# Altium integrated library Motorola Microcontroller 32-Bit.IntLib: 337 symbols (part 20 of 29)
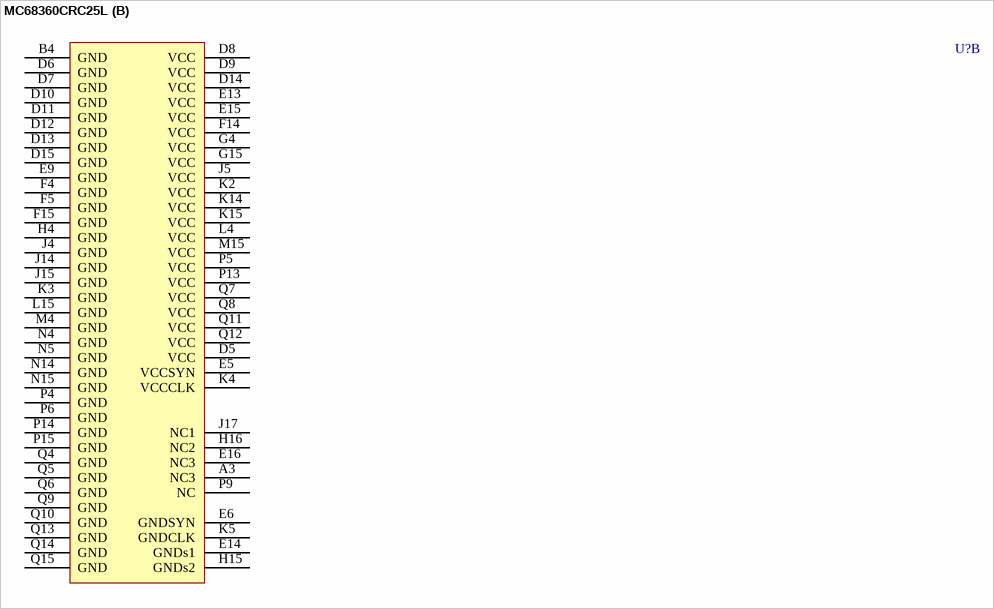
[diagram p258: symbol MC68360CRC25L]

## MC68360CRC25L
designator U?
Quad Integrated Communication Controller; Published: 21-Mar-2003; LatestRevisionDate: 06-Jun-2005; LatestRevisionNote: Stylized 3D Model Added.; DatasheetVersion: Jan-1995; PackageVersion: Jan-1995; PackageReference: PGA241; Publisher: Altium Limited; PackageDescription: 241-Pin Pin Grid Array 2.54 mm Pitch; ComponentLink1Description: Manufacturer Link; ComponentLink1URL: http://www.freescale.com/; ComponentLink2Description: Datasheet; ComponentLink2URL: http://www.freescale.com/files/32bit/doc/data_sheet/MC68360.pdf
footprint PGA241 (PGA, 241-Leads, Body 47x47mm, Pitch 2.54mm)
3D model MC68360-PGA241 (241-Pin Pin Grid Array 2.54 mm Pitch)
part A pins: A2 XTAL, A4 A26 (io), A5 A24 (io), A6 A21 (io), A7 A18 (io), A8 A15 (io), A9 A12 (io), A10 A11 (io), A11 A9 (io), A12 A6 (io), A13 A3 (io), A14 A2 (io), A15 ~{TRIS}/~{TS} (in), A16 ~{CS}6/~{RAS}6 (io), A17 ~{CS}3/~{RAS}3 (io), A18 ~{CS}0/~{RAS}0 (io), B1 SIZ0 (io), B2 A28/~{WE}3 (io), B3 MODCK0 (in), B5 A25 (io), B6 A22 (io), B7 A19 (io), B8 A16 (io), B9 A13 (io), B10 A10 (io), B11 A7 (io), B12 A5 (io), B13 A1 (io), B14 ~{IRQ}7 (in), B15 ~{CS}5/~{RAS}5 (io), B16 ~{CS}2/~{RAS}2 (io), B17 ~{CAS}2/~{IACK}3 (out), B18 ~{CAS}1/~{IACK}2 (out), C1 SIZ1 (io), C2 A29/~{WE}2 (io), C3 EXTAL (in), C4 MODCK1 (in), C5 A27 (io), C6 A23 (io), C7 A20 (io), C8 A17 (io), C9 A14 (io), C10 A8 (io), C11 A4 (io), C12 A0 (io), C13 ~{CS}7/~{RAS}7/~{IACK}7 (io), C14 ~{CS}4/~{RAS}4 (io), C15 ~{CS}1/~{RAS}1 (io), C16 ~{CAS}3/~{IACK}6 (out), C17 FREEZE/CONFIG2/~{MBARE} (out), C18 ~{DS}/TT1 (io), D1 FC2/TM2 (io), D2 FC1/TM1 (io), D3 A30/~{WE}1 (io), D4 XFC, D16 ~{CAS}0/~{IACK}1 (out), D17 R/~{W} (out), D18 ~{DSACK}0/~{TB}1 (io), E1 D30 (io), E2 FC3/TTO (io), E3 FC0/TM0 (io), E4 A31/~{WE}3 (io), E17 ~{DSACK}1/~{TA} (io), E18 PRTY3/16~{BM} (io), F1 D27 (io), F2 D29 (io), F3 D31 (io), F16 PRTY2/~{IOUT}0/~{RQOUT} (io), F17 PRTY1/~{IOUT}1 (io), F18 PRTY0/~{IOUT}2 (io), G1 D24 (io), G2 D26 (io), G3 D28 (io), G16 ~{IPIPE}0/BADD2/DSO (out), G17 ~{AS} (io), G18 ~{IPIPE}1/~{RAS1DD}/~{BCLRI} (io), H1 D21 (io), H2 D23 (io), H3 D25 (io), H17 ~{BCLRO}/CONFIG1/~{RAS2DD} (io), H18 ~{OE}/AMUX (out), J1 CLKO1 (out), J2 D20 (io), J3 D22 (io), J16 ~{IFETCH}/BADD3/DSI (io), J18 ~{BR} (in), K1 CLKO2 (out), K16 ~{IRQ}4/~{IOUT}1 (io), K17 ~{BGACK}/~{BB} (io), K18 ~{BG} (io), L1 D19 (io), L2 D18 (io), L3 D17 (io), L16 ~{TRST} (in), L17 ~{BKPT}/~{BKPTO}/DSCLK (io), L18 ~{IRQ}6/~{IOUT}2 (io), M1 D16 (io), M2 D15 (io), M3 D14 (io), M16 TDI (in), M17 TCK (in), M18 ~{RESETH} (io), N1 D13 (io), N2 D12 (io), N3 D11 (io), N16 ~{AVEC}/~{IACK}5/~{AVEC}0 (io), N17 TDO (hiz), N18 TMS (in), P1 D10 (io), P2 D9 (io), P3 D8 (io), P16 ~{HALT} (io), P17 ~{RMC}/CONFIG0/~{LOCK} (io), P18 ~{PERR} (out), Q1 D7 (io), Q2 D6 (io), Q3 D5 (io), Q16 ~{IRQ}5 (in), Q17 ~{BERR}/~{TEA} (io), Q18 ~{RESETS} (io), R1 D4 (io), R2 D3 (io), R3 D1 (io), R4 PA14/TIN4/BRGO4/CLK7 (io), R5 PA11/~{TOUT}2/CLK4 (io), R6 PA8/TIN1/L1RCLKA/BRGO1/CLK1 (io), R7 PA4/L1TXDB/RXD3 (io), R8 PA0/RXD1 (io), R9 PB14/L1SR3/~{L1RQB}/~{RTS}3 (io), R10 PB9/~{DACK}2/~{SMSYN}2 (io), R11 PB6/~{DONE}1/SMTXD1 (io), R12 PB3/BRGO4/SPIMISO(SPIRXD) (io), R13 PB0/~{RRJCT}1/~{SPISEL} (io), R14 PC8/~{SDACK}2/L1TSYNCB/~{CTS}3 (io), R15 PC4/~{CTS}1 (io), R16 PC0/L1ST1/~{RTS}1 (io), R17 ~{IRQ}3 (in), R18 ~{IRQ}1/~{IOUT}0/~{RQOUT} (io), S1 D2 (io), S2 D0 (io), S3 PA13/BRGCLK2/L1RCLKB/~{TOUT}3/~{CLK}6 (io), S4 PA10/TIN2/L1TCLKA/BRGO2/CLK3 (io), S5 PA7/L1RXDA/TXD4 (io), S6 PA5/L1RXDB/TXD3 (io), S7 PA1/TXD1 (io), S8 PB16/STRBO/BRGO3 (io), S9 PB13/L1ST2/~{RTS}2 (io), S10 PB10/L1CLKOB/SMTXD2 (io), S11 PB7/~{DONE}2/SMRXD1 (io), S12 PB4/~{DREQ}1/BRGO1 (io), S13 PB1/~{RSTRT}2/SPICLK (io), S14 PC10/~{SDACK}1/L1TSYNCA/~{CTS}4 (io), S15 PC7/~{TGATE}2/~{CD}2 (io), S16 PC3/L1ST4/~{L1RQA}/~{RTS}4 (io), S17 PC1/L1ST2/~{RTS}2 (io), S18 ~{IRQ}2 (in), T1 PA15/L1TCLKB/~{TOUT}4/CLKB (io), T2 PA12/TIN3/BRGO3/CLK5 (io), T3 PA9/BRGCLK1/~{TOUT}1/CLK2 (io), T4 PA6/L1TXDA/RXD4 (io), T5 PA3/TXD2 (io), T6 PA2/RXD2 (io), T7 PB17/STRBI/~{RSTRT}1 (io), T8 PB15/L1ST4/~{L1RQA}/~{RTS}4 (io), T9 PB12/L1ST1/~{RTS}1 (io), T10 PB11/L1CLKOA/SMRXD2 (io), T11 PB8/~{DREQ}2/~{SMSYN}1 (io), T12 PB5/~{DACK}1/BRGO2 (io), T13 PB2/~{RRJCT}2/SPIMOSI(SPITXD) (io), T14 PC11/L1RSYNCA/~{CD}4 (io), T15 PC9/L1RSYNCB/~{CD}3 (io), T16 PC6/~{CTS}2 (io), T17 PC5/~{TGATE}1/~{CD}1 (io), T18 PC2/L1ST3/~{L1RQB}/~{RTS}3 (io)
part B pins: A3 NC3, B4 GND (power), D5 VCC (power), D6 GND (power), D7 GND (power), D8 VCC (power), D9 VCC (power), D10 GND (power), D11 GND (power), D12 GND (power), D13 GND (power), D14 VCC (power), D15 GND (power), E5 VCCSYN (power), E6 GNDSYN (power), E9 GND (power), E13 VCC (power), E14 GNDs1 (power), E15 VCC (power), E16 NC3, F4 GND (power), F5 GND (power), F14 VCC (power), F15 GND (power), G4 VCC (power), G15 VCC (power), H4 GND (power), H15 GNDs2 (power), H16 NC2, J4 GND (power), J5 VCC (power), J14 GND (power), J15 GND (power), J17 NC1, K2 VCC (power), K3 GND (power), K4 VCCCLK (power), K5 GNDCLK (power), K14 VCC (power), K15 VCC (power), L4 VCC (power), L15 GND (power), M4 GND (power), M15 VCC (power), N4 GND (power), N5 GND (power), N14 GND (power), N15 GND (power), P4 GND (power), P5 VCC (power), P6 GND (power), P9 NC, P13 VCC (power), P14 GND (power), P15 GND (power), Q4 GND (power), Q5 GND (power), Q6 GND (power), Q7 VCC (power), Q8 VCC (power), Q9 GND (power), Q10 GND (power), Q11 VCC (power), Q12 VCC (power), Q13 GND (power), Q14 GND (power), Q15 GND (power)

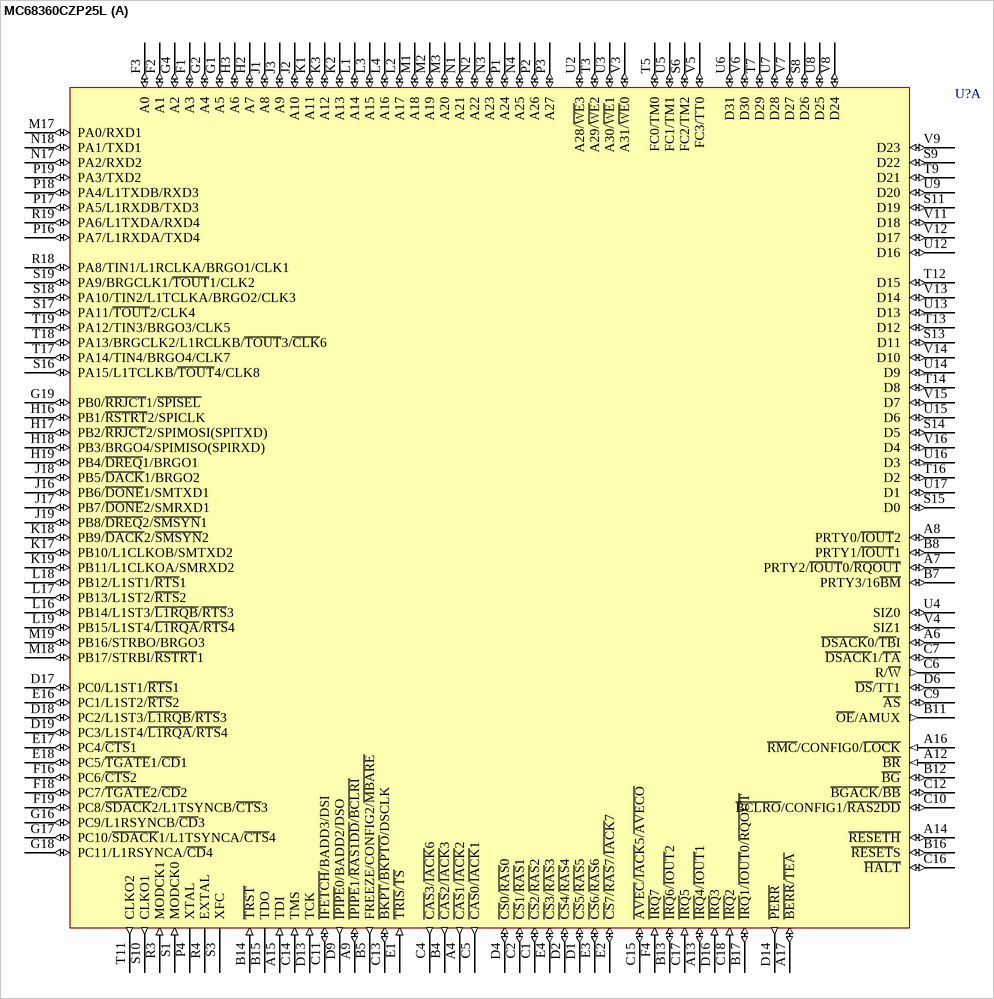
[diagram p162: symbol MC68360CZP25L]

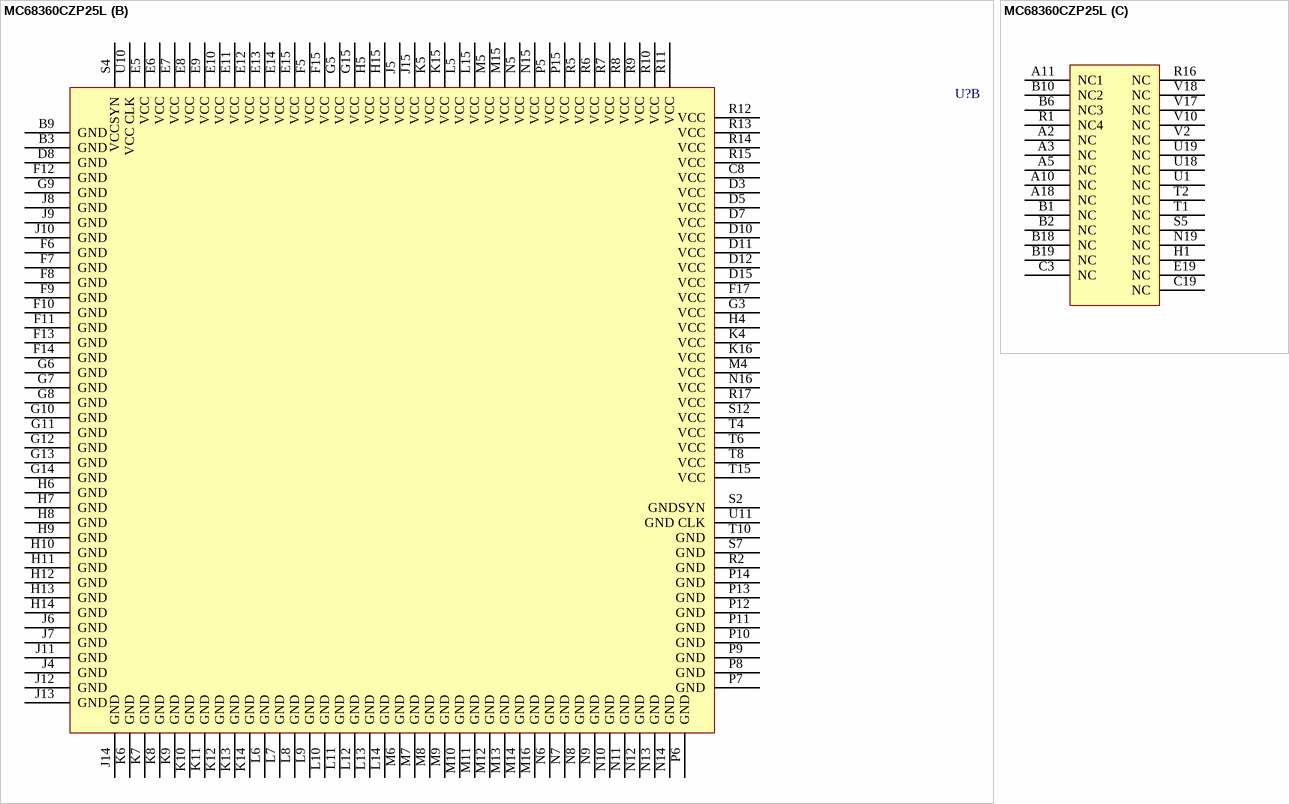
[diagram p163: symbol MC68360CZP25L]

## MC68360CZP25L
designator U?
Quad Integrated Communication Controller; Note: Footprint departs from the JEDEC JC-11 standard. The letter 's' is used to mark one of the rows.; Published: 21-Mar-2003; LatestRevisionDate: 13-Apr-2006; LatestRevisionNote: IPC-7351 Footprint Added.; DatasheetVersion: Jan-1995; PackageVersion: Sep-2002; PackageReference: 1103-01A; Publisher: Altium Limited; PackageDescription: 357-Ball Ball Grid Array 1.27 mm Pitch; ComponentLink1Description: Manufacturer Link; ComponentLink1URL: http://www.freescale.com/; ComponentLink2Description: Datasheet; ComponentLink2URL: http://www.freescale.com/files/32bit/doc/data_sheet/MC68360.pdf
footprint 1103-01 (BGA, 357-Leads, Body 25x25mm, Pitch 1.27mm)
3D model MC68360-1103-01 (357-Ball Ball Grid Array 1.27 mm Pitch)
part A pins: A4 ~{CAS}1/~{IACK}2 (out), A6 ~{DSACK}0/~{TB}I (io), A7 PRTY2/~{IOUT}0/~{RQOUT} (io), A8 PRTY0/~{IOUT}2 (io), A9 ~{IPIPE}1/~{RAS1DD}/~{BCLRI} (io), A12 ~{BR} (in), A13 ~{IRQ}4/~{IOUT}1 (io), A14 ~{RESETH} (io), A15 TDI (in), A16 ~{RMC}/CONFIG0/~{LOCK} (in), A17 ~{BERR}/~{TEA} (io), B4 ~{CAS}2/~{IACK}3 (out), B5 FREEZE/CONFIG2/~{MBARE} (out), B7 PRTY3/16~{BM} (io), B8 PRTY1/~{IOUT}1 (io), B11 ~{OE}/AMUX (out), B12 ~{BG} (io), B13 ~{IRQ}6/~{IOUT}2 (io), B14 ~{TRST} (in), B15 TDO (hiz), B16 ~{RESET}S (io), B17 ~{IRQ}1/~{IOUT}0/~{RQOUT} (io), C1 ~{CS}2/~{RAS}2 (io), C2 ~{CS}1/~{RAS}1 (io), C4 ~{CAS}3/~{IACK}6 (out), C5 ~{CAS}0/~{IACK}1 (out), C6 R/~{W} (out), C7 ~{DSACK}1/~{TA} (io), C9 ~{AS} (io), C10 ~{BCLRO}/CONFIG1/~{RAS2DD} (io), C11 ~{IFETCH}/BADD3/DSI (io), C12 ~{BGACK}/~{BB} (io), C13 ~{BKPT}/~{BKPTO}/DSCLK (io), C14 TMS (in), C15 ~{AVEC}/~{IACK}5/~{AVECO} (io), C16 ~{HALT} (io), C17 ~{IRQ}5 (in), C18 ~{IRQ}2 (in), D1 ~{CS}5/~{RAS}5 (io), D2 ~{CS}4/~{RAS}4 (io), D4 ~{CS}0/~{RAS}0 (io), D6 ~{DS}/TT1 (io), D9 ~{IPIPE}0/BADD2/DSO (out), D13 TCK (in), D14 ~{PERR} (out), D16 ~{IRQ}3 (in), D17 PC0/L1ST1/~{RTS}1 (io), D18 PC2/L1ST3/~{L1RQB}/~{RTS}3 (io), D19 PC3/L1ST4/~{L1RQA}/~{RTS}4 (io), E1 ~{TRIS}/~{TS} (in), E2 ~{CS}7/~{RAS}7/~{IACK}7 (io), E3 ~{CS}6/~{RAS}6 (io), E4 ~{CS}3/~{RAS}3 (io), E16 PC1/L1ST2/~{RTS}2 (io), E17 PC4/~{CTS}1 (io), E18 PC5/~{TGATE}1/~{CD}1 (io), F1 A3 (io), F2 A1 (io), F3 A0 (io), F4 ~{IRQ}7 (in), F16 PC6/~{CTS}2 (io), F18 PC7/~{TGATE}2/~{CD}2 (io), F19 PC8/~{SDACK}2/L1TSYNCB/~{CTS}3 (io), G1 A5 (io), G2 A4 (io), G4 A2 (io), G16 PC9/L1RSYNCB/~{CD}3 (io), G17 PC10/~{SDACK}1/L1TSYNCA/~{CTS}4 (io), G18 PC11/L1RSYNCA/~{CD}4 (io), G19 PB0/~{RRJCT}1/~{SPISEL} (io), H2 A7 (io), H3 A6 (io), H16 PB1/~{RSTRT}2/SPICLK (io), H17 PB2/~{RRJCT}2/SPIMOSI(SPITXD) (io), H18 PB3/BRGO4/SPIMISO(SPIRXD) (io), H19 PB4/~{DREQ}1/BRGO1 (io), J1 A8 (io), J2 A10 (io), J3 A9 (io), J16 PB6/~{DONE}1/SMTXD1 (io), J17 PB7/~{DONE}2/SMRXD1 (io), J18 PB5/~{DACK}1/BRGO2 (io), J19 PB8/~{DREQ}2/~{SMSYN}1 (io), K1 A11 (io), K2 A13 (io), K3 A12 (io), K17 PB10/L1CLKOB/SMTXD2 (io), K18 PB9/~{DACK}2/~{SMSYN}2 (io), K19 PB11/L1CLKOA/SMRXD2 (io), L1 A14 (io), L2 A17 (io), L3 A15 (io), L4 A16 (io), L16 PB14/L1ST3/~{L1RQB}/~{RTS}3 (io), L17 PB13/L1ST2/~{RTS}2 (io), L18 PB12/L1ST1/~{RTS}1 (io), L19 PB15/L1ST4/~{L1RQA}/~{RTS}4 (io), M1 A18 (io), M2 A19 (io), M3 A20 (io), M17 PA0/RXD1 (io), M18 PB17/STRBI/~{RSTRT}1 (io), M19 PB16/STRBO/BRGO3 (io), N1 A21 (io), N2 A22 (io), N3 A23 (io), N4 A25 (io), N17 PA2/RXD2 (io), N18 PA1/TXD1 (io), P1 A24 (io), P2 A26 (io), P3 A27 (io), P4 XTAL, P16 PA7/L1RXDA/TXD4 (io), P17 PA5/L1RXDB/TXD3 (io), P18 PA4/L1TXDB/RXD3 (io), P19 PA3/TXD2 (io), R3 MODCK1 (in), R4 EXTAL, R18 PA8/TIN1/L1RCLKA/BRGO1/CLK1 (io), R19 PA6/L1TXDA/RXD4 (io), S1 MODCK0 (in), S3 XFC, S6 FC2/TM2 (io), S8 D26 (io), S9 D22 (io), S10 CLKO1 (out), S11 D19 (io), S13 D11 (io), S14 D5 (io), S15 D0 (io), S16 PA15/L1TCLKB/~{TOUT}4/CLK8 (io), S17 PA11/~{TOUT}2/CLK4 (io), S18 PA10/TIN2/L1TCLKA/BRGO2/CLK3 (io), S19 PA9/BRGCLK1/~{TOUT}1/CLK2 (io), T3 A29/~{WE}2 (io), T5 FC0/TM0 (io), T7 D29 (io), T9 D21 (io), T11 CLKO2 (out), T12 D15 (io), T13 D12 (io), T14 D8 (io), T16 D2 (io), T17 PA14/TIN4/BRGO4/CLK7 (io), T18 PA13/BRGCLK2/L1RCLKB/~{TOUT}3/~{CLK}6 (io), T19 PA12/TIN3/BRGO3/CLK5 (io), U2 A28/~{WE}3 (io), U3 A30/~{WE}1 (io), U4 SIZ0 (io), U5 FC1/TM1 (io), U6 D31 (io), U7 D28 (io), U8 D25 (io), U9 D20 (io), U12 D16 (io), U13 D13 (io), U14 D9 (io), U15 D6 (io), U16 D3 (io), U17 D1 (io), V3 A31/~{WE}0 (io), V4 SIZ1 (io), V5 FC3/TT0 (io), V6 D30 (io), V7 D27 (io), V8 D24 (io), V9 D23 (io), V11 D18 (io), V12 D17 (io), V13 D14 (io), V14 D10 (io), V15 D7 (io), V16 D4 (io)
part B pins: B3 GND (power), B9 GND (power), C8 VCC (power), D3 VCC (power), D5 VCC (power), D7 VCC (power), D8 GND (power), D10 VCC (power), D11 VCC (power), D12 VCC (power), D15 VCC (power), E5 VCC (power), E6 VCC (power), E7 VCC (power), E8 VCC (power), E9 VCC (power), E10 VCC (power), E11 VCC (power), E12 VCC (power), E13 VCC (power), E14 VCC (power), E15 VCC (power), F5 VCC (power), F6 GND (power), F7 GND (power), F8 GND (power), F9 GND (power), F10 GND (power), F11 GND (power), F12 GND (power), F13 GND (power), F14 GND (power), F15 VCC (power), F17 VCC (power), G3 VCC (power), G5 VCC (power), G6 GND (power), G7 GND (power), G8 GND (power), G9 GND (power), G10 GND (power), G11 GND (power), G12 GND (power), G13 GND (power), G14 GND (power), G15 VCC (power), H4 VCC (power), H5 VCC (power), H6 GND (power), H7 GND (power), H8 GND (power), H9 GND (power), H10 GND (power), H11 GND (power), H12 GND (power), H13 GND (power), H14 GND (power), H15 VCC (power), J4 GND (power), J5 VCC (power), J6 GND (power), J7 GND (power), J8 GND (power), J9 GND (power), J10 GND (power), J11 GND (power), J12 GND (power), J13 GND (power), J14 GND (power), J15 VCC (power), K4 VCC (power), K5 VCC (power), K6 GND (power), K7 GND (power), K8 GND (power), K9 GND (power), K10 GND (power), K11 GND (power), K12 GND (power), K13 GND (power), K14 GND (power), K15 VCC (power), K16 VCC (power), L5 VCC (power), L6 GND (power), L7 GND (power), L8 GND (power), L9 GND (power), L10 GND (power), L11 GND (power), L12 GND (power), L13 GND (power), L14 GND (power), L15 VCC (power), M4 VCC (power), M5 VCC (power), M6 GND (power), M7 GND (power), M8 GND (power), M9 GND (power), M10 GND (power), M11 GND (power), M12 GND (power), M13 GND (power), M14 GND (power), M15 VCC (power), M16 GND (power), N5 VCC (power), N6 GND (power), N7 GND (power), N8 GND (power), N9 GND (power), N10 GND (power), N11 GND (power), N12 GND (power), N13 GND (power), N14 GND (power), N15 VCC (power), N16 VCC (power), P5 VCC (power), P6 GND (power), P7 GND (power), P8 GND (power), P9 GND (power), P10 GND (power), P11 GND (power), P12 GND (power), P13 GND (power), P14 GND (power), P15 VCC (power), R2 GND (power), R5 VCC (power), R6 VCC (power), R7 VCC (power), R8 VCC (power), R9 VCC (power), R10 VCC (power), R11 VCC (power), R12 VCC (power), R13 VCC (power), R14 VCC (power), R15 VCC (power), R17 VCC (power), S2 GNDSYN (power), S4 VCCSYN (power), S7 GND (power), S12 VCC (power), T4 VCC (power), T6 VCC (power), T8 VCC (power), T10 GND (power), T15 VCC (power), U10 VCC CLK (power), U11 GND CLK (power)
part C pins: A2 NC, A3 NC, A5 NC, A10 NC, A11 NC1, A18 NC, B1 NC, B2 NC, B6 NC3, B10 NC2, B18 NC, B19 NC, C3 NC, C19 NC, E19 NC, H1 NC, N19 NC, R1 NC4, R16 NC, S5 NC, T1 NC, T2 NC, U1 NC, U18 NC, U19 NC, V2 NC, V10 NC, V17 NC, V18 NC

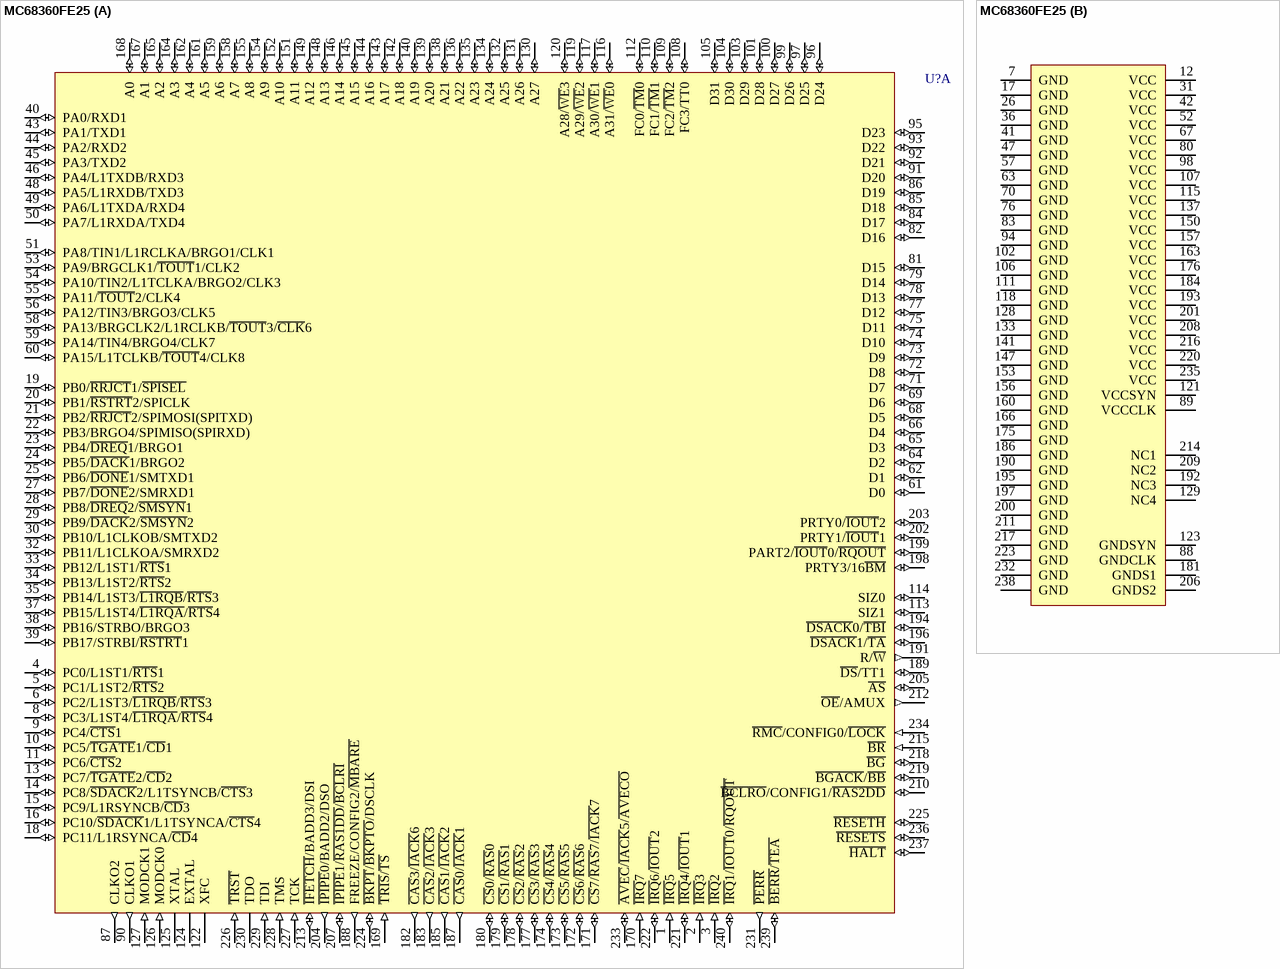
[diagram p164: symbol MC68360FE25]

## MC68360FE25
designator U?
Quad Integrated Communication Controller; Published: 21-Mar-2003; LatestRevisionDate: 13-Apr-2006; LatestRevisionNote: IPC-7351 Footprint Added.; DatasheetVersion: Jan-1995; PackageVersion: Mar-1995; PackageReference: 988-01; Publisher: Altium Limited; PackageDescription: 240-Pin Shrink Quad Flat Pack 0.5 mm Pitch; ComponentLink1Description: Manufacturer Link; ComponentLink1URL: http://www.freescale.com/; ComponentLink2Description: Datasheet; ComponentLink2URL: http://www.freescale.com/files/32bit/doc/data_sheet/MC68360.pdf
footprint 988-01_N (Shrink QFP, 240-Leads, Body 31.3x31.3mm, Pitch 0.5mm, IPC Medium Density)
footprint 988-01_L (Shrink QFP, 240-Leads, Body 31.3x31.3mm, Pitch 0.5mm, IPC High Density)
footprint 988-01_M (Shrink QFP, 240-Leads, Body 31.3x31.3mm, Pitch 0.5mm, IPC Low Density)
3D model MC68360-988-01 (240-Pin Shrink Quad Flat Pack 0.5 mm Pitch)
part A pins: 1 ~{IRQ}5 (in), 2 ~{IRQ}3 (in), 3 ~{IRQ}2 (in), 4 PC0/L1ST1/~{RTS}1 (io), 5 PC1/L1ST2/~{RTS}2 (io), 6 PC2/L1ST3/~{L1RQB}/~{RTS}3 (io), 8 PC3/L1ST4/~{L1RQA}/~{RTS}4 (io), 9 PC4/~{CTS}1 (io), 10 PC5/~{TGATE}1/~{CD}1 (io), 11 PC6/~{CTS}2 (io), 13 PC7/~{TGATE}2/~{CD}2 (io), 14 PC8/~{SDACK}2/L1TSYNCB/~{CTS}3 (io), 15 PC9/L1RSYNCB/~{CD}3 (io), 16 PC10/~{SDACK}1/L1TSYNCA/~{CTS}4 (io), 18 PC11/L1RSYNCA/~{CD}4 (io), 19 PB0/~{RRJCT}1/~{SPISEL} (io), 20 PB1/~{RSTRT}2/SPICLK (io), 21 PB2/~{RRJCT}2/SPIMOSI(SPITXD) (io), 22 PB3/BRGO4/SPIMISO(SPIRXD) (io), 23 PB4/~{DREQ}1/BRGO1 (io), 24 PB5/~{DACK}1/BRGO2 (io), 25 PB6/~{DONE}1/SMTXD1 (io), 27 PB7/~{DONE}2/SMRXD1 (io), 28 PB8/~{DREQ}2/~{SMSYN}1 (io), 29 PB9/~{DACK}2/~{SMSYN}2 (io), 30 PB10/L1CLKOB/SMTXD2 (io), 32 PB11/L1CLKOA/SMRXD2 (io), 33 PB12/L1ST1/~{RTS}1 (io), 34 PB13/L1ST2/~{RTS}2 (io), 35 PB14/L1ST3/~{L1RQB}/~{RTS}3 (io), 37 PB15/L1ST4/~{L1RQA}/~{RTS}4 (io), 38 PB16/STRBO/BRGO3 (io), 39 PB17/STRBI/~{RSTRT}1 (io), 40 PA0/RXD1 (io), 43 PA1/TXD1 (io), 44 PA2/RXD2 (io), 45 PA3/TXD2 (io), 46 PA4/L1TXDB/RXD3 (io), 48 PA5/L1RXDB/TXD3 (io), 49 PA6/L1TXDA/RXD4 (io), 50 PA7/L1RXDA/TXD4 (io), 51 PA8/TIN1/L1RCLKA/BRGO1/CLK1 (io), 53 PA9/BRGCLK1/~{TOUT}1/CLK2 (io), 54 PA10/TIN2/L1TCLKA/BRGO2/CLK3 (io), 55 PA11/~{TOUT}2/CLK4 (io), 56 PA12/TIN3/BRGO3/CLK5 (io), 58 PA13/BRGCLK2/L1RCLKB/~{TOUT}3/~{CLK}6 (io), 59 PA14/TIN4/BRGO4/CLK7 (io), 60 PA15/L1TCLKB/~{TOUT}4/CLK8 (io), 61 D0 (io), 62 D1 (io), 64 D2 (io), 65 D3 (io), 66 D4 (io), 68 D5 (io), 69 D6 (io), 71 D7 (io), 72 D8 (io), 73 D9 (io), 74 D10 (io), 75 D11 (io), 77 D12 (io), 78 D13 (io), 79 D14 (io), 81 D15 (io), 82 D16 (io), 84 D17 (io), 85 D18 (io), 86 D19 (io), 87 CLKO2 (out), 90 CLKO1 (out), 91 D20 (io), 92 D21 (io), 93 D22 (io), 95 D23 (io), 96 D24 (io), 97 D25 (io), 99 D26 (io), 100 D27 (io), 101 D28 (io), 103 D29 (io), 104 D30 (io), 105 D31 (io), 108 FC3/TT0 (io), 109 FC2/~{TM}2 (io), 110 FC1/~{TM}1 (io), 112 FC0/~{TM}0 (io), 113 SIZ1 (io), 114 SIZ0 (io), 116 A31/~{WE}0 (io), 117 A30/~{WE}1 (io), 119 A29/~{WE}2 (io), 120 A28/~{WE}3 (io), 122 XFC, 124 EXTAL, 125 XTAL, 126 MODCK0 (in), 127 MODCK1 (in), 130 A27 (io), 131 A26 (io), 132 A25 (io), 134 A24 (io), 135 A23 (io), 136 A22 (io), 138 A21 (io), 139 A20 (io), 140 A19 (io), 142 A18 (io), 143 A17 (io), 144 A16 (io), 145 A15 (io), 146 A14 (io), 148 A13 (io), 149 A12 (io), 151 A11 (io), 152 A10 (io), 154 A9 (io), 155 A8 (io), 158 A7 (io), 159 A6 (io), 161 A5 (io), 162 A4 (io), 164 A3 (io), 165 A2 (io), 167 A1 (io), 168 A0 (io), 169 ~{TRIS}/~{TS} (in), 170 ~{IRQ}7 (in), 171 ~{CS}7/~{RAS}7/~{IACK}7 (io), 172 ~{CS}6/~{RAS}6 (io), 173 ~{CS}5/~{RAS}5 (io), 174 ~{CS}4/~{RAS}4 (io), 177 ~{CS}3/~{RAS}3 (io), 178 ~{CS}2/~{RAS}2 (io), 179 ~{CS}1/~{RAS}1 (io), 180 ~{CS}0/~{RAS}0 (io), 182 ~{CAS}3/~{IACK}6 (out), 183 ~{CAS}2/~{IACK}3 (out), 185 ~{CAS}1/~{IACK}2 (out), 187 ~{CAS}0/~{IACK}1 (out), 188 FREEZE/CONFIG2/~{MBARE} (out), 189 ~{DS}/TT1 (io), 191 R/~{W} (out), 194 ~{DSACK}0/~{TBI} (io), 196 ~{DSACK}1/~{TA} (io), 198 PRTY3/16~{BM} (io), 199 PART2/~{IOUT}0/~{RQOUT} (io), 202 PRTY1/~{IOUT}1 (io), 203 PRTY0/~{IOUT}2 (io), 204 ~{IPIPE}0/BADD2/DSO (out), 205 ~{AS} (io), 207 ~{IPIPE}1/~{RAS1DD}/~{BCLRI} (io), 210 ~{BCLRO}/CONFIG1/~{RAS2DD} (io), 212 ~{OE}/AMUX (out), 213 ~{IFETCH}/BADD3/DSI (io), 215 ~{BR} (in), 218 ~{BG} (io), 219 ~{BGACK}/~{BB} (io), 221 ~{IRQ}4/~{IOUT}1 (io), 222 ~{IRQ}6/~{IOUT}2 (io), 224 ~{BKPT}/~{BKPTO}/DSCLK (io), 225 ~{RESETH} (io), 226 ~{TRST} (in), 227 TCK (in), 228 TMS (in), 229 TDI (in), 230 TDO (hiz), 231 ~{PERR} (out), 233 ~{AVEC}/~{IACK}5/~{AVECO} (io), 234 ~{RMC}/CONFIG0/~{LOCK} (in), 236 ~{RESETS} (io), 237 ~{HALT} (io), 239 ~{BERR}/~{TEA} (io), 240 ~{IRQ}1/~{IOUT}0/~{RQOUT} (io)
part B pins: 7 GND (power), 12 VCC (power), 17 GND (power), 26 GND (power), 31 VCC (power), 36 GND (power), 41 GND (power), 42 VCC (power), 47 GND (power), 52 VCC (power), 57 GND (power), 63 GND (power), 67 VCC (power), 70 GND (power), 76 GND (power), 80 VCC (power), 83 GND (power), 88 GNDCLK (power), 89 VCCCLK (power), 94 GND (power), 98 VCC (power), 102 GND (power), 106 GND (power), 107 VCC (power), 111 GND (power), 115 VCC (power), 118 GND (power), 121 VCCSYN (power), 123 GNDSYN (power), 128 GND (power), 129 NC4, 133 GND (power), 137 VCC (power), 141 GND (power), 147 GND (power), 150 VCC (power), 153 GND (power), 156 GND (power), 157 VCC (power), 160 GND (power), 163 VCC (power), 166 GND (power), 175 GND (power), 176 VCC (power), 181 GNDS1 (power), 184 VCC (power), 186 GND (power), 190 GND (power), 192 NC3, 193 VCC (power), 195 GND (power), 197 GND (power), 200 GND (power), 201 VCC (power), 206 GNDS2 (power), 208 VCC (power), 209 NC2, 211 GND (power), 214 NC1, 216 VCC (power), 217 GND (power), 220 VCC (power), 223 GND (power), 232 GND (power), 235 VCC (power), 238 GND (power)

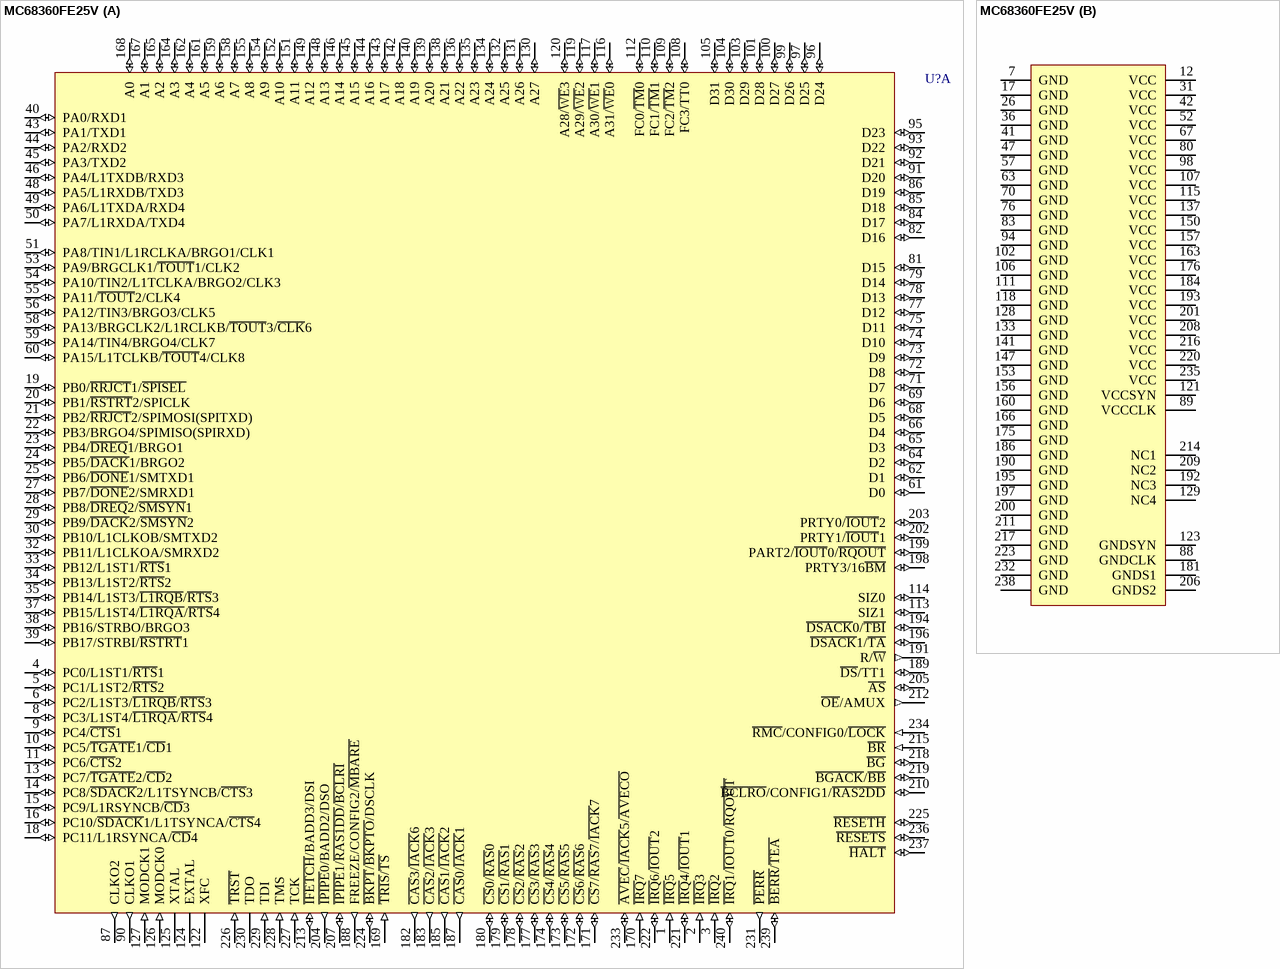
[diagram p165: symbol MC68360FE25V]

## MC68360FE25V
designator U?
Quad Integrated Communication Controller; Published: 21-Mar-2003; LatestRevisionDate: 13-Apr-2006; LatestRevisionNote: IPC-7351 Footprint Added.; DatasheetVersion: Jan-1995; PackageVersion: Mar-1995; PackageReference: 988-01; Publisher: Altium Limited; PackageDescription: 240-Pin Shrink Quad Flat Pack 0.5 mm Pitch; ComponentLink1Description: Manufacturer Link; ComponentLink1URL: http://www.freescale.com/; ComponentLink2Description: Datasheet; ComponentLink2URL: http://www.freescale.com/files/32bit/doc/data_sheet/MC68360.pdf
footprint 988-01_N (Shrink QFP, 240-Leads, Body 31.3x31.3mm, Pitch 0.5mm, IPC Medium Density)
footprint 988-01_L (Shrink QFP, 240-Leads, Body 31.3x31.3mm, Pitch 0.5mm, IPC High Density)
footprint 988-01_M (Shrink QFP, 240-Leads, Body 31.3x31.3mm, Pitch 0.5mm, IPC Low Density)
3D model MC68360-988-01 (240-Pin Shrink Quad Flat Pack 0.5 mm Pitch)
part A pins: 1 ~{IRQ}5 (in), 2 ~{IRQ}3 (in), 3 ~{IRQ}2 (in), 4 PC0/L1ST1/~{RTS}1 (io), 5 PC1/L1ST2/~{RTS}2 (io), 6 PC2/L1ST3/~{L1RQB}/~{RTS}3 (io), 8 PC3/L1ST4/~{L1RQA}/~{RTS}4 (io), 9 PC4/~{CTS}1 (io), 10 PC5/~{TGATE}1/~{CD}1 (io), 11 PC6/~{CTS}2 (io), 13 PC7/~{TGATE}2/~{CD}2 (io), 14 PC8/~{SDACK}2/L1TSYNCB/~{CTS}3 (io), 15 PC9/L1RSYNCB/~{CD}3 (io), 16 PC10/~{SDACK}1/L1TSYNCA/~{CTS}4 (io), 18 PC11/L1RSYNCA/~{CD}4 (io), 19 PB0/~{RRJCT}1/~{SPISEL} (io), 20 PB1/~{RSTRT}2/SPICLK (io), 21 PB2/~{RRJCT}2/SPIMOSI(SPITXD) (io), 22 PB3/BRGO4/SPIMISO(SPIRXD) (io), 23 PB4/~{DREQ}1/BRGO1 (io), 24 PB5/~{DACK}1/BRGO2 (io), 25 PB6/~{DONE}1/SMTXD1 (io), 27 PB7/~{DONE}2/SMRXD1 (io), 28 PB8/~{DREQ}2/~{SMSYN}1 (io), 29 PB9/~{DACK}2/~{SMSYN}2 (io), 30 PB10/L1CLKOB/SMTXD2 (io), 32 PB11/L1CLKOA/SMRXD2 (io), 33 PB12/L1ST1/~{RTS}1 (io), 34 PB13/L1ST2/~{RTS}2 (io), 35 PB14/L1ST3/~{L1RQB}/~{RTS}3 (io), 37 PB15/L1ST4/~{L1RQA}/~{RTS}4 (io), 38 PB16/STRBO/BRGO3 (io), 39 PB17/STRBI/~{RSTRT}1 (io), 40 PA0/RXD1 (io), 43 PA1/TXD1 (io), 44 PA2/RXD2 (io), 45 PA3/TXD2 (io), 46 PA4/L1TXDB/RXD3 (io), 48 PA5/L1RXDB/TXD3 (io), 49 PA6/L1TXDA/RXD4 (io), 50 PA7/L1RXDA/TXD4 (io), 51 PA8/TIN1/L1RCLKA/BRGO1/CLK1 (io), 53 PA9/BRGCLK1/~{TOUT}1/CLK2 (io), 54 PA10/TIN2/L1TCLKA/BRGO2/CLK3 (io), 55 PA11/~{TOUT}2/CLK4 (io), 56 PA12/TIN3/BRGO3/CLK5 (io), 58 PA13/BRGCLK2/L1RCLKB/~{TOUT}3/~{CLK}6 (io), 59 PA14/TIN4/BRGO4/CLK7 (io), 60 PA15/L1TCLKB/~{TOUT}4/CLK8 (io), 61 D0 (io), 62 D1 (io), 64 D2 (io), 65 D3 (io), 66 D4 (io), 68 D5 (io), 69 D6 (io), 71 D7 (io), 72 D8 (io), 73 D9 (io), 74 D10 (io), 75 D11 (io), 77 D12 (io), 78 D13 (io), 79 D14 (io), 81 D15 (io), 82 D16 (io), 84 D17 (io), 85 D18 (io), 86 D19 (io), 87 CLKO2 (out), 90 CLKO1 (out), 91 D20 (io), 92 D21 (io), 93 D22 (io), 95 D23 (io), 96 D24 (io), 97 D25 (io), 99 D26 (io), 100 D27 (io), 101 D28 (io), 103 D29 (io), 104 D30 (io), 105 D31 (io), 108 FC3/TT0 (io), 109 FC2/~{TM}2 (io), 110 FC1/~{TM}1 (io), 112 FC0/~{TM}0 (io), 113 SIZ1 (io), 114 SIZ0 (io), 116 A31/~{WE}0 (io), 117 A30/~{WE}1 (io), 119 A29/~{WE}2 (io), 120 A28/~{WE}3 (io), 122 XFC, 124 EXTAL, 125 XTAL, 126 MODCK0 (in), 127 MODCK1 (in), 130 A27 (io), 131 A26 (io), 132 A25 (io), 134 A24 (io), 135 A23 (io), 136 A22 (io), 138 A21 (io), 139 A20 (io), 140 A19 (io), 142 A18 (io), 143 A17 (io), 144 A16 (io), 145 A15 (io), 146 A14 (io), 148 A13 (io), 149 A12 (io), 151 A11 (io), 152 A10 (io), 154 A9 (io), 155 A8 (io), 158 A7 (io), 159 A6 (io), 161 A5 (io), 162 A4 (io), 164 A3 (io), 165 A2 (io), 167 A1 (io), 168 A0 (io), 169 ~{TRIS}/~{TS} (in), 170 ~{IRQ}7 (in), 171 ~{CS}7/~{RAS}7/~{IACK}7 (io), 172 ~{CS}6/~{RAS}6 (io), 173 ~{CS}5/~{RAS}5 (io), 174 ~{CS}4/~{RAS}4 (io), 177 ~{CS}3/~{RAS}3 (io), 178 ~{CS}2/~{RAS}2 (io), 179 ~{CS}1/~{RAS}1 (io), 180 ~{CS}0/~{RAS}0 (io), 182 ~{CAS}3/~{IACK}6 (out), 183 ~{CAS}2/~{IACK}3 (out), 185 ~{CAS}1/~{IACK}2 (out), 187 ~{CAS}0/~{IACK}1 (out), 188 FREEZE/CONFIG2/~{MBARE} (out), 189 ~{DS}/TT1 (io), 191 R/~{W} (out), 194 ~{DSACK}0/~{TBI} (io), 196 ~{DSACK}1/~{TA} (io), 198 PRTY3/16~{BM} (io), 199 PART2/~{IOUT}0/~{RQOUT} (io), 202 PRTY1/~{IOUT}1 (io), 203 PRTY0/~{IOUT}2 (io), 204 ~{IPIPE}0/BADD2/DSO (out), 205 ~{AS} (io), 207 ~{IPIPE}1/~{RAS1DD}/~{BCLRI} (io), 210 ~{BCLRO}/CONFIG1/~{RAS2DD} (io), 212 ~{OE}/AMUX (out), 213 ~{IFETCH}/BADD3/DSI (io), 215 ~{BR} (in), 218 ~{BG} (io), 219 ~{BGACK}/~{BB} (io), 221 ~{IRQ}4/~{IOUT}1 (io), 222 ~{IRQ}6/~{IOUT}2 (io), 224 ~{BKPT}/~{BKPTO}/DSCLK (io), 225 ~{RESETH} (io), 226 ~{TRST} (in), 227 TCK (in), 228 TMS (in), 229 TDI (in), 230 TDO (hiz), 231 ~{PERR} (out), 233 ~{AVEC}/~{IACK}5/~{AVECO} (io), 234 ~{RMC}/CONFIG0/~{LOCK} (in), 236 ~{RESETS} (io), 237 ~{HALT} (io), 239 ~{BERR}/~{TEA} (io), 240 ~{IRQ}1/~{IOUT}0/~{RQOUT} (io)
part B pins: 7 GND (power), 12 VCC (power), 17 GND (power), 26 GND (power), 31 VCC (power), 36 GND (power), 41 GND (power), 42 VCC (power), 47 GND (power), 52 VCC (power), 57 GND (power), 63 GND (power), 67 VCC (power), 70 GND (power), 76 GND (power), 80 VCC (power), 83 GND (power), 88 GNDCLK (power), 89 VCCCLK (power), 94 GND (power), 98 VCC (power), 102 GND (power), 106 GND (power), 107 VCC (power), 111 GND (power), 115 VCC (power), 118 GND (power), 121 VCCSYN (power), 123 GNDSYN (power), 128 GND (power), 129 NC4, 133 GND (power), 137 VCC (power), 141 GND (power), 147 GND (power), 150 VCC (power), 153 GND (power), 156 GND (power), 157 VCC (power), 160 GND (power), 163 VCC (power), 166 GND (power), 175 GND (power), 176 VCC (power), 181 GNDS1 (power), 184 VCC (power), 186 GND (power), 190 GND (power), 192 NC3, 193 VCC (power), 195 GND (power), 197 GND (power), 200 GND (power), 201 VCC (power), 206 GNDS2 (power), 208 VCC (power), 209 NC2, 211 GND (power), 214 NC1, 216 VCC (power), 217 GND (power), 220 VCC (power), 223 GND (power), 232 GND (power), 235 VCC (power), 238 GND (power)

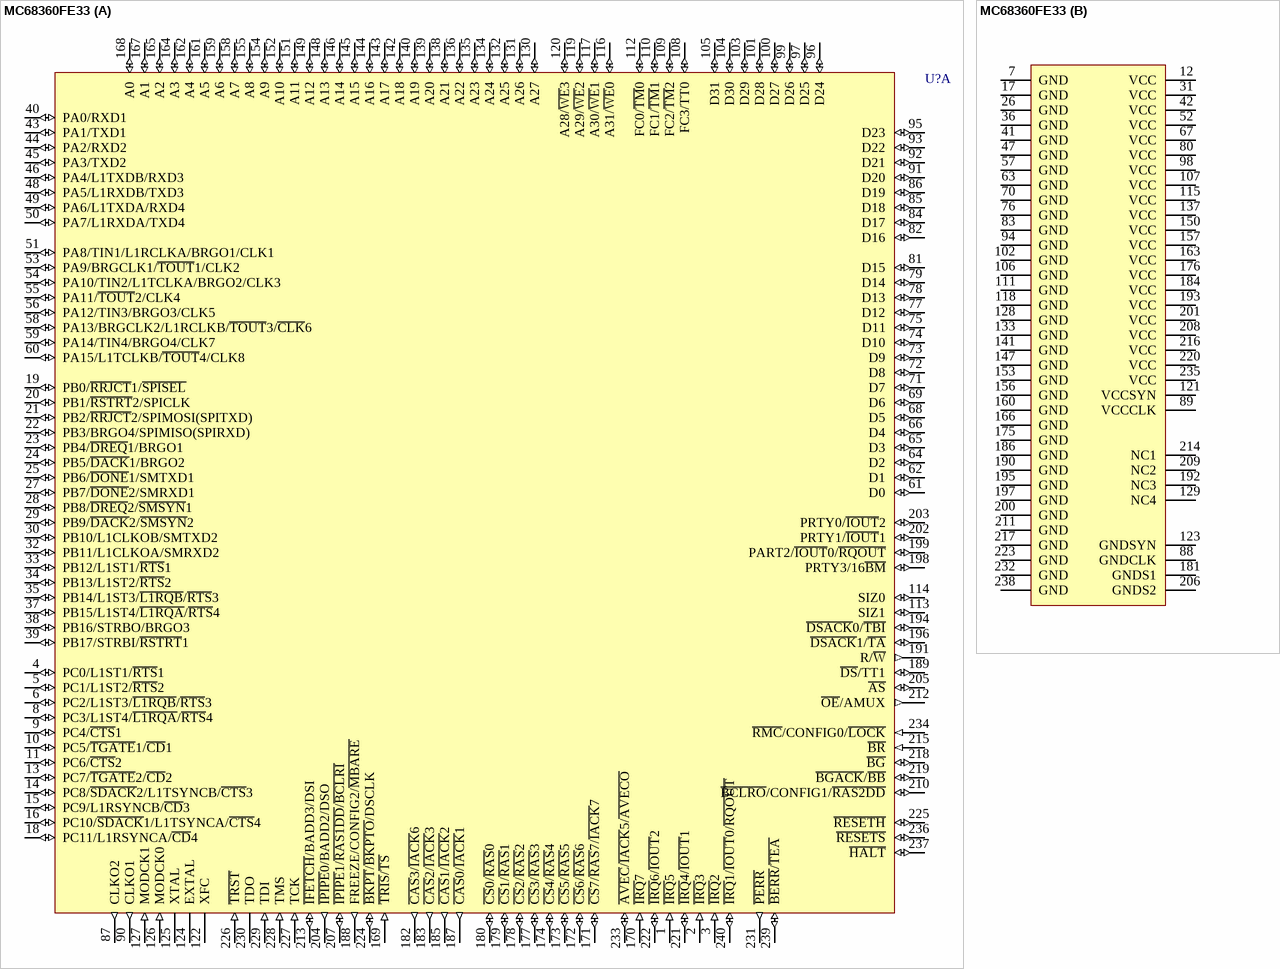
[diagram p166: symbol MC68360FE33]

## MC68360FE33
designator U?
Quad Integrated Communication Controller; Published: 21-Mar-2003; LatestRevisionDate: 13-Apr-2006; LatestRevisionNote: IPC-7351 Footprint Added.; DatasheetVersion: Jan-1995; PackageVersion: Mar-1995; PackageReference: 988-01; Publisher: Altium Limited; PackageDescription: 240-Pin Shrink Quad Flat Pack 0.5 mm Pitch; ComponentLink1Description: Manufacturer Link; ComponentLink1URL: http://www.freescale.com/; ComponentLink2Description: Datasheet; ComponentLink2URL: http://www.freescale.com/files/32bit/doc/data_sheet/MC68360.pdf
footprint 988-01_N (Shrink QFP, 240-Leads, Body 31.3x31.3mm, Pitch 0.5mm, IPC Medium Density)
footprint 988-01_L (Shrink QFP, 240-Leads, Body 31.3x31.3mm, Pitch 0.5mm, IPC High Density)
footprint 988-01_M (Shrink QFP, 240-Leads, Body 31.3x31.3mm, Pitch 0.5mm, IPC Low Density)
3D model MC68360-988-01 (240-Pin Shrink Quad Flat Pack 0.5 mm Pitch)
part A pins: 1 ~{IRQ}5 (in), 2 ~{IRQ}3 (in), 3 ~{IRQ}2 (in), 4 PC0/L1ST1/~{RTS}1 (io), 5 PC1/L1ST2/~{RTS}2 (io), 6 PC2/L1ST3/~{L1RQB}/~{RTS}3 (io), 8 PC3/L1ST4/~{L1RQA}/~{RTS}4 (io), 9 PC4/~{CTS}1 (io), 10 PC5/~{TGATE}1/~{CD}1 (io), 11 PC6/~{CTS}2 (io), 13 PC7/~{TGATE}2/~{CD}2 (io), 14 PC8/~{SDACK}2/L1TSYNCB/~{CTS}3 (io), 15 PC9/L1RSYNCB/~{CD}3 (io), 16 PC10/~{SDACK}1/L1TSYNCA/~{CTS}4 (io), 18 PC11/L1RSYNCA/~{CD}4 (io), 19 PB0/~{RRJCT}1/~{SPISEL} (io), 20 PB1/~{RSTRT}2/SPICLK (io), 21 PB2/~{RRJCT}2/SPIMOSI(SPITXD) (io), 22 PB3/BRGO4/SPIMISO(SPIRXD) (io), 23 PB4/~{DREQ}1/BRGO1 (io), 24 PB5/~{DACK}1/BRGO2 (io), 25 PB6/~{DONE}1/SMTXD1 (io), 27 PB7/~{DONE}2/SMRXD1 (io), 28 PB8/~{DREQ}2/~{SMSYN}1 (io), 29 PB9/~{DACK}2/~{SMSYN}2 (io), 30 PB10/L1CLKOB/SMTXD2 (io), 32 PB11/L1CLKOA/SMRXD2 (io), 33 PB12/L1ST1/~{RTS}1 (io), 34 PB13/L1ST2/~{RTS}2 (io), 35 PB14/L1ST3/~{L1RQB}/~{RTS}3 (io), 37 PB15/L1ST4/~{L1RQA}/~{RTS}4 (io), 38 PB16/STRBO/BRGO3 (io), 39 PB17/STRBI/~{RSTRT}1 (io), 40 PA0/RXD1 (io), 43 PA1/TXD1 (io), 44 PA2/RXD2 (io), 45 PA3/TXD2 (io), 46 PA4/L1TXDB/RXD3 (io), 48 PA5/L1RXDB/TXD3 (io), 49 PA6/L1TXDA/RXD4 (io), 50 PA7/L1RXDA/TXD4 (io), 51 PA8/TIN1/L1RCLKA/BRGO1/CLK1 (io), 53 PA9/BRGCLK1/~{TOUT}1/CLK2 (io), 54 PA10/TIN2/L1TCLKA/BRGO2/CLK3 (io), 55 PA11/~{TOUT}2/CLK4 (io), 56 PA12/TIN3/BRGO3/CLK5 (io), 58 PA13/BRGCLK2/L1RCLKB/~{TOUT}3/~{CLK}6 (io), 59 PA14/TIN4/BRGO4/CLK7 (io), 60 PA15/L1TCLKB/~{TOUT}4/CLK8 (io), 61 D0 (io), 62 D1 (io), 64 D2 (io), 65 D3 (io), 66 D4 (io), 68 D5 (io), 69 D6 (io), 71 D7 (io), 72 D8 (io), 73 D9 (io), 74 D10 (io), 75 D11 (io), 77 D12 (io), 78 D13 (io), 79 D14 (io), 81 D15 (io), 82 D16 (io), 84 D17 (io), 85 D18 (io), 86 D19 (io), 87 CLKO2 (out), 90 CLKO1 (out), 91 D20 (io), 92 D21 (io), 93 D22 (io), 95 D23 (io), 96 D24 (io), 97 D25 (io), 99 D26 (io), 100 D27 (io), 101 D28 (io), 103 D29 (io), 104 D30 (io), 105 D31 (io), 108 FC3/TT0 (io), 109 FC2/~{TM}2 (io), 110 FC1/~{TM}1 (io), 112 FC0/~{TM}0 (io), 113 SIZ1 (io), 114 SIZ0 (io), 116 A31/~{WE}0 (io), 117 A30/~{WE}1 (io), 119 A29/~{WE}2 (io), 120 A28/~{WE}3 (io), 122 XFC, 124 EXTAL, 125 XTAL, 126 MODCK0 (in), 127 MODCK1 (in), 130 A27 (io), 131 A26 (io), 132 A25 (io), 134 A24 (io), 135 A23 (io), 136 A22 (io), 138 A21 (io), 139 A20 (io), 140 A19 (io), 142 A18 (io), 143 A17 (io), 144 A16 (io), 145 A15 (io), 146 A14 (io), 148 A13 (io), 149 A12 (io), 151 A11 (io), 152 A10 (io), 154 A9 (io), 155 A8 (io), 158 A7 (io), 159 A6 (io), 161 A5 (io), 162 A4 (io), 164 A3 (io), 165 A2 (io), 167 A1 (io), 168 A0 (io), 169 ~{TRIS}/~{TS} (in), 170 ~{IRQ}7 (in), 171 ~{CS}7/~{RAS}7/~{IACK}7 (io), 172 ~{CS}6/~{RAS}6 (io), 173 ~{CS}5/~{RAS}5 (io), 174 ~{CS}4/~{RAS}4 (io), 177 ~{CS}3/~{RAS}3 (io), 178 ~{CS}2/~{RAS}2 (io), 179 ~{CS}1/~{RAS}1 (io), 180 ~{CS}0/~{RAS}0 (io), 182 ~{CAS}3/~{IACK}6 (out), 183 ~{CAS}2/~{IACK}3 (out), 185 ~{CAS}1/~{IACK}2 (out), 187 ~{CAS}0/~{IACK}1 (out), 188 FREEZE/CONFIG2/~{MBARE} (out), 189 ~{DS}/TT1 (io), 191 R/~{W} (out), 194 ~{DSACK}0/~{TBI} (io), 196 ~{DSACK}1/~{TA} (io), 198 PRTY3/16~{BM} (io), 199 PART2/~{IOUT}0/~{RQOUT} (io), 202 PRTY1/~{IOUT}1 (io), 203 PRTY0/~{IOUT}2 (io), 204 ~{IPIPE}0/BADD2/DSO (out), 205 ~{AS} (io), 207 ~{IPIPE}1/~{RAS1DD}/~{BCLRI} (io), 210 ~{BCLRO}/CONFIG1/~{RAS2DD} (io), 212 ~{OE}/AMUX (out), 213 ~{IFETCH}/BADD3/DSI (io), 215 ~{BR} (in), 218 ~{BG} (io), 219 ~{BGACK}/~{BB} (io), 221 ~{IRQ}4/~{IOUT}1 (io), 222 ~{IRQ}6/~{IOUT}2 (io), 224 ~{BKPT}/~{BKPTO}/DSCLK (io), 225 ~{RESETH} (io), 226 ~{TRST} (in), 227 TCK (in), 228 TMS (in), 229 TDI (in), 230 TDO (hiz), 231 ~{PERR} (out), 233 ~{AVEC}/~{IACK}5/~{AVECO} (io), 234 ~{RMC}/CONFIG0/~{LOCK} (in), 236 ~{RESETS} (io), 237 ~{HALT} (io), 239 ~{BERR}/~{TEA} (io), 240 ~{IRQ}1/~{IOUT}0/~{RQOUT} (io)
part B pins: 7 GND (power), 12 VCC (power), 17 GND (power), 26 GND (power), 31 VCC (power), 36 GND (power), 41 GND (power), 42 VCC (power), 47 GND (power), 52 VCC (power), 57 GND (power), 63 GND (power), 67 VCC (power), 70 GND (power), 76 GND (power), 80 VCC (power), 83 GND (power), 88 GNDCLK (power), 89 VCCCLK (power), 94 GND (power), 98 VCC (power), 102 GND (power), 106 GND (power), 107 VCC (power), 111 GND (power), 115 VCC (power), 118 GND (power), 121 VCCSYN (power), 123 GNDSYN (power), 128 GND (power), 129 NC4, 133 GND (power), 137 VCC (power), 141 GND (power), 147 GND (power), 150 VCC (power), 153 GND (power), 156 GND (power), 157 VCC (power), 160 GND (power), 163 VCC (power), 166 GND (power), 175 GND (power), 176 VCC (power), 181 GNDS1 (power), 184 VCC (power), 186 GND (power), 190 GND (power), 192 NC3, 193 VCC (power), 195 GND (power), 197 GND (power), 200 GND (power), 201 VCC (power), 206 GNDS2 (power), 208 VCC (power), 209 NC2, 211 GND (power), 214 NC1, 216 VCC (power), 217 GND (power), 220 VCC (power), 223 GND (power), 232 GND (power), 235 VCC (power), 238 GND (power)

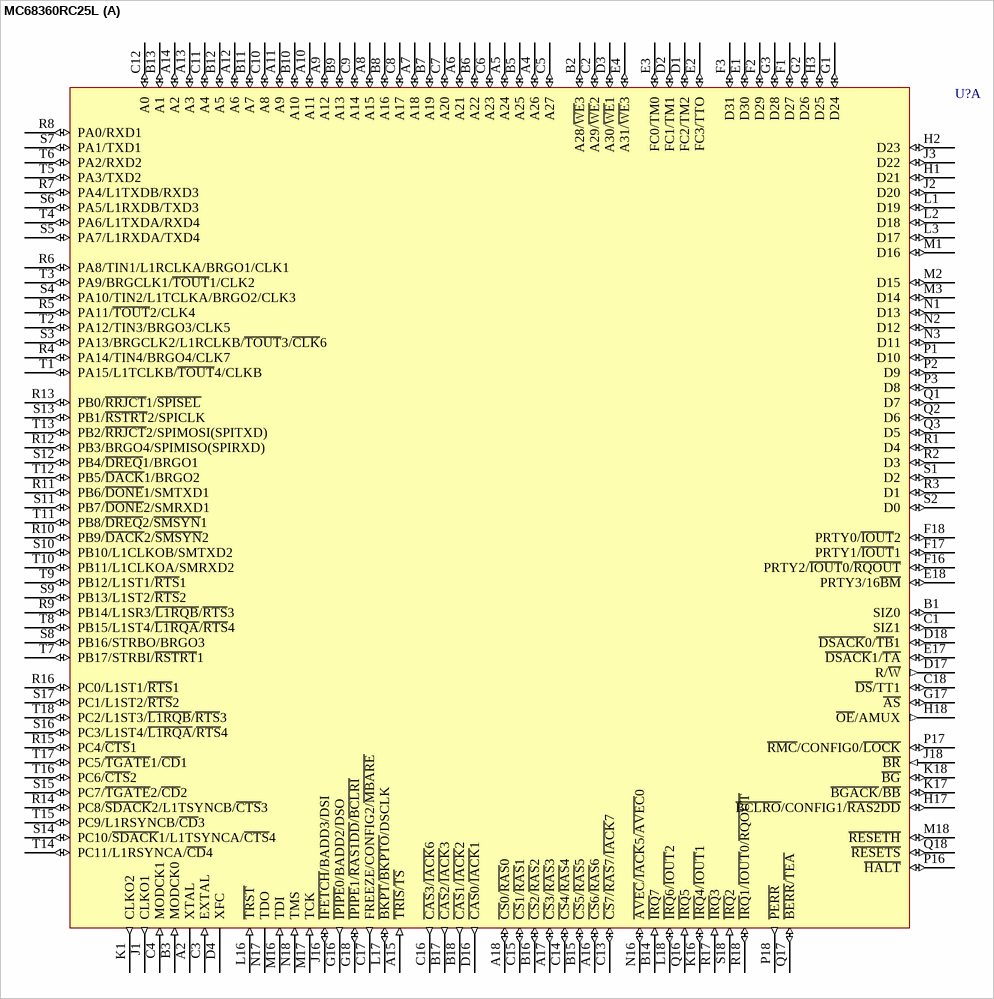
[diagram p167: symbol MC68360RC25L]

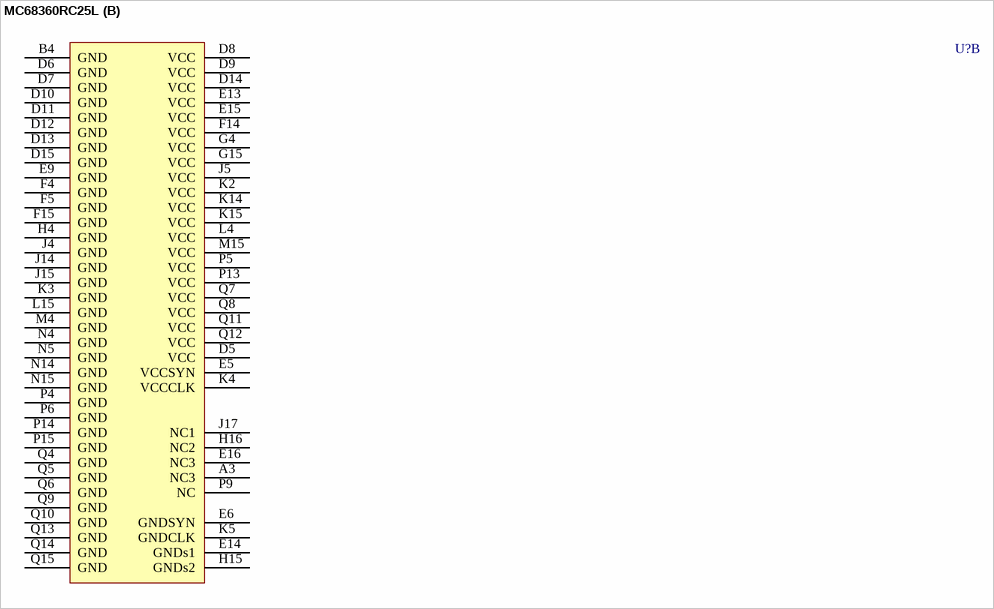
[diagram p168: symbol MC68360RC25L]

## MC68360RC25L
designator U?
Quad Integrated Communication Controller; Published: 21-Mar-2003; LatestRevisionDate: 06-Jun-2005; LatestRevisionNote: Stylized 3D Model Added.; DatasheetVersion: Jan-1995; PackageVersion: Jan-1995; PackageReference: PGA241; Publisher: Altium Limited; PackageDescription: 241-Pin Pin Grid Array 2.54 mm Pitch; ComponentLink1Description: Manufacturer Link; ComponentLink1URL: http://www.freescale.com/; ComponentLink2Description: Datasheet; ComponentLink2URL: http://www.freescale.com/files/32bit/doc/data_sheet/MC68360.pdf
footprint PGA241 (PGA, 241-Leads, Body 47x47mm, Pitch 2.54mm)
3D model MC68360-PGA241 (241-Pin Pin Grid Array 2.54 mm Pitch)
part A pins: A2 XTAL, A4 A26 (io), A5 A24 (io), A6 A21 (io), A7 A18 (io), A8 A15 (io), A9 A12 (io), A10 A11 (io), A11 A9 (io), A12 A6 (io), A13 A3 (io), A14 A2 (io), A15 ~{TRIS}/~{TS} (in), A16 ~{CS}6/~{RAS}6 (io), A17 ~{CS}3/~{RAS}3 (io), A18 ~{CS}0/~{RAS}0 (io), B1 SIZ0 (io), B2 A28/~{WE}3 (io), B3 MODCK0 (in), B5 A25 (io), B6 A22 (io), B7 A19 (io), B8 A16 (io), B9 A13 (io), B10 A10 (io), B11 A7 (io), B12 A5 (io), B13 A1 (io), B14 ~{IRQ}7 (in), B15 ~{CS}5/~{RAS}5 (io), B16 ~{CS}2/~{RAS}2 (io), B17 ~{CAS}2/~{IACK}3 (out), B18 ~{CAS}1/~{IACK}2 (out), C1 SIZ1 (io), C2 A29/~{WE}2 (io), C3 EXTAL (in), C4 MODCK1 (in), C5 A27 (io), C6 A23 (io), C7 A20 (io), C8 A17 (io), C9 A14 (io), C10 A8 (io), C11 A4 (io), C12 A0 (io), C13 ~{CS}7/~{RAS}7/~{IACK}7 (io), C14 ~{CS}4/~{RAS}4 (io), C15 ~{CS}1/~{RAS}1 (io), C16 ~{CAS}3/~{IACK}6 (out), C17 FREEZE/CONFIG2/~{MBARE} (out), C18 ~{DS}/TT1 (io), D1 FC2/TM2 (io), D2 FC1/TM1 (io), D3 A30/~{WE}1 (io), D4 XFC, D16 ~{CAS}0/~{IACK}1 (out), D17 R/~{W} (out), D18 ~{DSACK}0/~{TB}1 (io), E1 D30 (io), E2 FC3/TTO (io), E3 FC0/TM0 (io), E4 A31/~{WE}3 (io), E17 ~{DSACK}1/~{TA} (io), E18 PRTY3/16~{BM} (io), F1 D27 (io), F2 D29 (io), F3 D31 (io), F16 PRTY2/~{IOUT}0/~{RQOUT} (io), F17 PRTY1/~{IOUT}1 (io), F18 PRTY0/~{IOUT}2 (io), G1 D24 (io), G2 D26 (io), G3 D28 (io), G16 ~{IPIPE}0/BADD2/DSO (out), G17 ~{AS} (io), G18 ~{IPIPE}1/~{RAS1DD}/~{BCLRI} (io), H1 D21 (io), H2 D23 (io), H3 D25 (io), H17 ~{BCLRO}/CONFIG1/~{RAS2DD} (io), H18 ~{OE}/AMUX (out), J1 CLKO1 (out), J2 D20 (io), J3 D22 (io), J16 ~{IFETCH}/BADD3/DSI (io), J18 ~{BR} (in), K1 CLKO2 (out), K16 ~{IRQ}4/~{IOUT}1 (io), K17 ~{BGACK}/~{BB} (io), K18 ~{BG} (io), L1 D19 (io), L2 D18 (io), L3 D17 (io), L16 ~{TRST} (in), L17 ~{BKPT}/~{BKPTO}/DSCLK (io), L18 ~{IRQ}6/~{IOUT}2 (io), M1 D16 (io), M2 D15 (io), M3 D14 (io), M16 TDI (in), M17 TCK (in), M18 ~{RESETH} (io), N1 D13 (io), N2 D12 (io), N3 D11 (io), N16 ~{AVEC}/~{IACK}5/~{AVEC}0 (io), N17 TDO (hiz), N18 TMS (in), P1 D10 (io), P2 D9 (io), P3 D8 (io), P16 ~{HALT} (io), P17 ~{RMC}/CONFIG0/~{LOCK} (io), P18 ~{PERR} (out), Q1 D7 (io), Q2 D6 (io), Q3 D5 (io), Q16 ~{IRQ}5 (in), Q17 ~{BERR}/~{TEA} (io), Q18 ~{RESETS} (io), R1 D4 (io), R2 D3 (io), R3 D1 (io), R4 PA14/TIN4/BRGO4/CLK7 (io), R5 PA11/~{TOUT}2/CLK4 (io), R6 PA8/TIN1/L1RCLKA/BRGO1/CLK1 (io), R7 PA4/L1TXDB/RXD3 (io), R8 PA0/RXD1 (io), R9 PB14/L1SR3/~{L1RQB}/~{RTS}3 (io), R10 PB9/~{DACK}2/~{SMSYN}2 (io), R11 PB6/~{DONE}1/SMTXD1 (io), R12 PB3/BRGO4/SPIMISO(SPIRXD) (io), R13 PB0/~{RRJCT}1/~{SPISEL} (io), R14 PC8/~{SDACK}2/L1TSYNCB/~{CTS}3 (io), R15 PC4/~{CTS}1 (io), R16 PC0/L1ST1/~{RTS}1 (io), R17 ~{IRQ}3 (in), R18 ~{IRQ}1/~{IOUT}0/~{RQOUT} (io), S1 D2 (io), S2 D0 (io), S3 PA13/BRGCLK2/L1RCLKB/~{TOUT}3/~{CLK}6 (io), S4 PA10/TIN2/L1TCLKA/BRGO2/CLK3 (io), S5 PA7/L1RXDA/TXD4 (io), S6 PA5/L1RXDB/TXD3 (io), S7 PA1/TXD1 (io), S8 PB16/STRBO/BRGO3 (io), S9 PB13/L1ST2/~{RTS}2 (io), S10 PB10/L1CLKOB/SMTXD2 (io), S11 PB7/~{DONE}2/SMRXD1 (io), S12 PB4/~{DREQ}1/BRGO1 (io), S13 PB1/~{RSTRT}2/SPICLK (io), S14 PC10/~{SDACK}1/L1TSYNCA/~{CTS}4 (io), S15 PC7/~{TGATE}2/~{CD}2 (io), S16 PC3/L1ST4/~{L1RQA}/~{RTS}4 (io), S17 PC1/L1ST2/~{RTS}2 (io), S18 ~{IRQ}2 (in), T1 PA15/L1TCLKB/~{TOUT}4/CLKB (io), T2 PA12/TIN3/BRGO3/CLK5 (io), T3 PA9/BRGCLK1/~{TOUT}1/CLK2 (io), T4 PA6/L1TXDA/RXD4 (io), T5 PA3/TXD2 (io), T6 PA2/RXD2 (io), T7 PB17/STRBI/~{RSTRT}1 (io), T8 PB15/L1ST4/~{L1RQA}/~{RTS}4 (io), T9 PB12/L1ST1/~{RTS}1 (io), T10 PB11/L1CLKOA/SMRXD2 (io), T11 PB8/~{DREQ}2/~{SMSYN}1 (io), T12 PB5/~{DACK}1/BRGO2 (io), T13 PB2/~{RRJCT}2/SPIMOSI(SPITXD) (io), T14 PC11/L1RSYNCA/~{CD}4 (io), T15 PC9/L1RSYNCB/~{CD}3 (io), T16 PC6/~{CTS}2 (io), T17 PC5/~{TGATE}1/~{CD}1 (io), T18 PC2/L1ST3/~{L1RQB}/~{RTS}3 (io)
part B pins: A3 NC3, B4 GND (power), D5 VCC (power), D6 GND (power), D7 GND (power), D8 VCC (power), D9 VCC (power), D10 GND (power), D11 GND (power), D12 GND (power), D13 GND (power), D14 VCC (power), D15 GND (power), E5 VCCSYN (power), E6 GNDSYN (power), E9 GND (power), E13 VCC (power), E14 GNDs1 (power), E15 VCC (power), E16 NC3, F4 GND (power), F5 GND (power), F14 VCC (power), F15 GND (power), G4 VCC (power), G15 VCC (power), H4 GND (power), H15 GNDs2 (power), H16 NC2, J4 GND (power), J5 VCC (power), J14 GND (power), J15 GND (power), J17 NC1, K2 VCC (power), K3 GND (power), K4 VCCCLK (power), K5 GNDCLK (power), K14 VCC (power), K15 VCC (power), L4 VCC (power), L15 GND (power), M4 GND (power), M15 VCC (power), N4 GND (power), N5 GND (power), N14 GND (power), N15 GND (power), P4 GND (power), P5 VCC (power), P6 GND (power), P9 NC, P13 VCC (power), P14 GND (power), P15 GND (power), Q4 GND (power), Q5 GND (power), Q6 GND (power), Q7 VCC (power), Q8 VCC (power), Q9 GND (power), Q10 GND (power), Q11 VCC (power), Q12 VCC (power), Q13 GND (power), Q14 GND (power), Q15 GND (power)

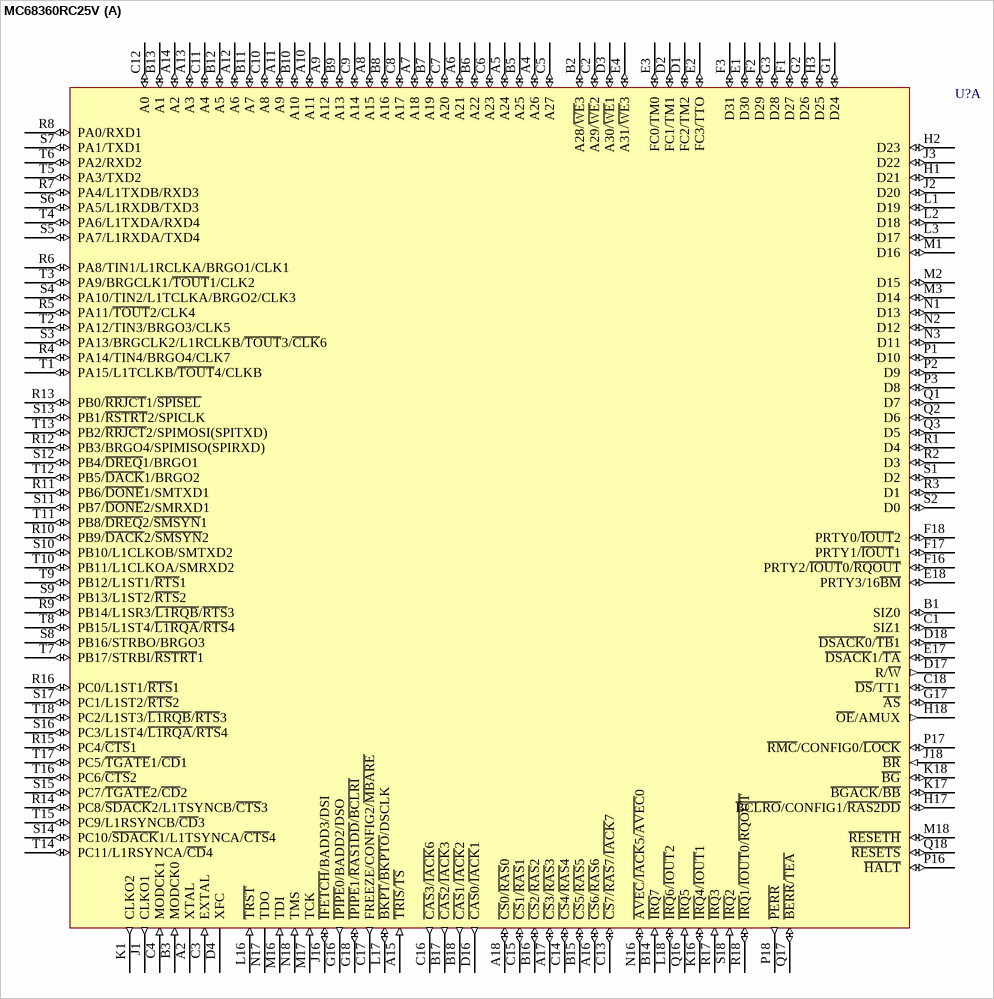
[diagram p169: symbol MC68360RC25V]

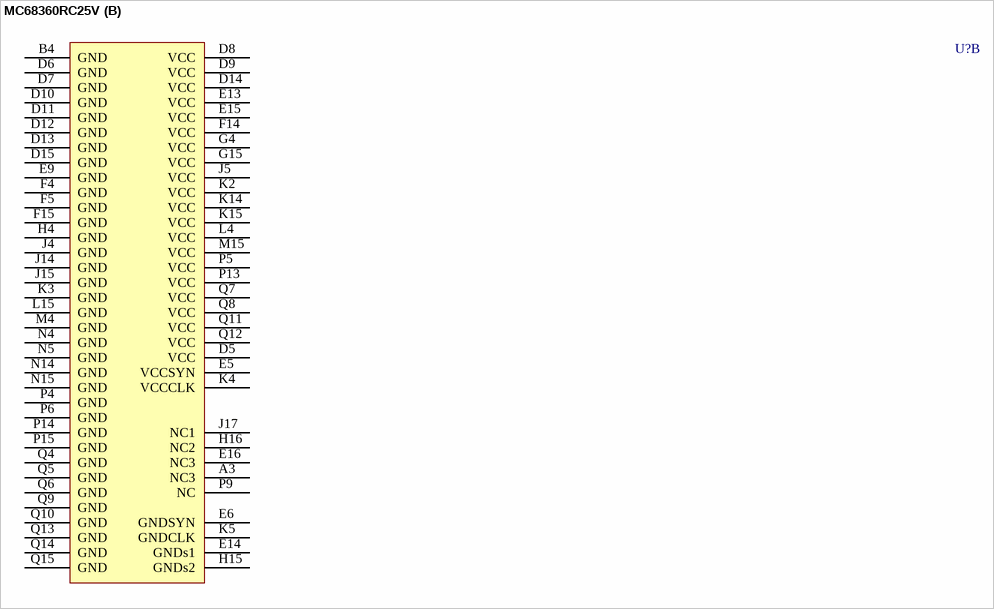
[diagram p170: symbol MC68360RC25V]

## MC68360RC25V
designator U?
Quad Integrated Communication Controller; Published: 21-Mar-2003; LatestRevisionDate: 06-Jun-2005; LatestRevisionNote: Stylized 3D Model Added.; DatasheetVersion: Jan-1995; PackageVersion: Jan-1995; PackageReference: PGA241; Publisher: Altium Limited; PackageDescription: 241-Pin Pin Grid Array 2.54 mm Pitch; ComponentLink1Description: Manufacturer Link; ComponentLink1URL: http://www.freescale.com/; ComponentLink2Description: Datasheet; ComponentLink2URL: http://www.freescale.com/files/32bit/doc/data_sheet/MC68360.pdf
footprint PGA241 (PGA, 241-Leads, Body 47x47mm, Pitch 2.54mm)
3D model MC68360-PGA241 (241-Pin Pin Grid Array 2.54 mm Pitch)
part A pins: A2 XTAL, A4 A26 (io), A5 A24 (io), A6 A21 (io), A7 A18 (io), A8 A15 (io), A9 A12 (io), A10 A11 (io), A11 A9 (io), A12 A6 (io), A13 A3 (io), A14 A2 (io), A15 ~{TRIS}/~{TS} (in), A16 ~{CS}6/~{RAS}6 (io), A17 ~{CS}3/~{RAS}3 (io), A18 ~{CS}0/~{RAS}0 (io), B1 SIZ0 (io), B2 A28/~{WE}3 (io), B3 MODCK0 (in), B5 A25 (io), B6 A22 (io), B7 A19 (io), B8 A16 (io), B9 A13 (io), B10 A10 (io), B11 A7 (io), B12 A5 (io), B13 A1 (io), B14 ~{IRQ}7 (in), B15 ~{CS}5/~{RAS}5 (io), B16 ~{CS}2/~{RAS}2 (io), B17 ~{CAS}2/~{IACK}3 (out), B18 ~{CAS}1/~{IACK}2 (out), C1 SIZ1 (io), C2 A29/~{WE}2 (io), C3 EXTAL (in), C4 MODCK1 (in), C5 A27 (io), C6 A23 (io), C7 A20 (io), C8 A17 (io), C9 A14 (io), C10 A8 (io), C11 A4 (io), C12 A0 (io), C13 ~{CS}7/~{RAS}7/~{IACK}7 (io), C14 ~{CS}4/~{RAS}4 (io), C15 ~{CS}1/~{RAS}1 (io), C16 ~{CAS}3/~{IACK}6 (out), C17 FREEZE/CONFIG2/~{MBARE} (out), C18 ~{DS}/TT1 (io), D1 FC2/TM2 (io), D2 FC1/TM1 (io), D3 A30/~{WE}1 (io), D4 XFC, D16 ~{CAS}0/~{IACK}1 (out), D17 R/~{W} (out), D18 ~{DSACK}0/~{TB}1 (io), E1 D30 (io), E2 FC3/TTO (io), E3 FC0/TM0 (io), E4 A31/~{WE}3 (io), E17 ~{DSACK}1/~{TA} (io), E18 PRTY3/16~{BM} (io), F1 D27 (io), F2 D29 (io), F3 D31 (io), F16 PRTY2/~{IOUT}0/~{RQOUT} (io), F17 PRTY1/~{IOUT}1 (io), F18 PRTY0/~{IOUT}2 (io), G1 D24 (io), G2 D26 (io), G3 D28 (io), G16 ~{IPIPE}0/BADD2/DSO (out), G17 ~{AS} (io), G18 ~{IPIPE}1/~{RAS1DD}/~{BCLRI} (io), H1 D21 (io), H2 D23 (io), H3 D25 (io), H17 ~{BCLRO}/CONFIG1/~{RAS2DD} (io), H18 ~{OE}/AMUX (out), J1 CLKO1 (out), J2 D20 (io), J3 D22 (io), J16 ~{IFETCH}/BADD3/DSI (io), J18 ~{BR} (in), K1 CLKO2 (out), K16 ~{IRQ}4/~{IOUT}1 (io), K17 ~{BGACK}/~{BB} (io), K18 ~{BG} (io), L1 D19 (io), L2 D18 (io), L3 D17 (io), L16 ~{TRST} (in), L17 ~{BKPT}/~{BKPTO}/DSCLK (io), L18 ~{IRQ}6/~{IOUT}2 (io), M1 D16 (io), M2 D15 (io), M3 D14 (io), M16 TDI (in), M17 TCK (in), M18 ~{RESETH} (io), N1 D13 (io), N2 D12 (io), N3 D11 (io), N16 ~{AVEC}/~{IACK}5/~{AVEC}0 (io), N17 TDO (hiz), N18 TMS (in), P1 D10 (io), P2 D9 (io), P3 D8 (io), P16 ~{HALT} (io), P17 ~{RMC}/CONFIG0/~{LOCK} (io), P18 ~{PERR} (out), Q1 D7 (io), Q2 D6 (io), Q3 D5 (io), Q16 ~{IRQ}5 (in), Q17 ~{BERR}/~{TEA} (io), Q18 ~{RESETS} (io), R1 D4 (io), R2 D3 (io), R3 D1 (io), R4 PA14/TIN4/BRGO4/CLK7 (io), R5 PA11/~{TOUT}2/CLK4 (io), R6 PA8/TIN1/L1RCLKA/BRGO1/CLK1 (io), R7 PA4/L1TXDB/RXD3 (io), R8 PA0/RXD1 (io), R9 PB14/L1SR3/~{L1RQB}/~{RTS}3 (io), R10 PB9/~{DACK}2/~{SMSYN}2 (io), R11 PB6/~{DONE}1/SMTXD1 (io), R12 PB3/BRGO4/SPIMISO(SPIRXD) (io), R13 PB0/~{RRJCT}1/~{SPISEL} (io), R14 PC8/~{SDACK}2/L1TSYNCB/~{CTS}3 (io), R15 PC4/~{CTS}1 (io), R16 PC0/L1ST1/~{RTS}1 (io), R17 ~{IRQ}3 (in), R18 ~{IRQ}1/~{IOUT}0/~{RQOUT} (io), S1 D2 (io), S2 D0 (io), S3 PA13/BRGCLK2/L1RCLKB/~{TOUT}3/~{CLK}6 (io), S4 PA10/TIN2/L1TCLKA/BRGO2/CLK3 (io), S5 PA7/L1RXDA/TXD4 (io), S6 PA5/L1RXDB/TXD3 (io), S7 PA1/TXD1 (io), S8 PB16/STRBO/BRGO3 (io), S9 PB13/L1ST2/~{RTS}2 (io), S10 PB10/L1CLKOB/SMTXD2 (io), S11 PB7/~{DONE}2/SMRXD1 (io), S12 PB4/~{DREQ}1/BRGO1 (io), S13 PB1/~{RSTRT}2/SPICLK (io), S14 PC10/~{SDACK}1/L1TSYNCA/~{CTS}4 (io), S15 PC7/~{TGATE}2/~{CD}2 (io), S16 PC3/L1ST4/~{L1RQA}/~{RTS}4 (io), S17 PC1/L1ST2/~{RTS}2 (io), S18 ~{IRQ}2 (in), T1 PA15/L1TCLKB/~{TOUT}4/CLKB (io), T2 PA12/TIN3/BRGO3/CLK5 (io), T3 PA9/BRGCLK1/~{TOUT}1/CLK2 (io), T4 PA6/L1TXDA/RXD4 (io), T5 PA3/TXD2 (io), T6 PA2/RXD2 (io), T7 PB17/STRBI/~{RSTRT}1 (io), T8 PB15/L1ST4/~{L1RQA}/~{RTS}4 (io), T9 PB12/L1ST1/~{RTS}1 (io), T10 PB11/L1CLKOA/SMRXD2 (io), T11 PB8/~{DREQ}2/~{SMSYN}1 (io), T12 PB5/~{DACK}1/BRGO2 (io), T13 PB2/~{RRJCT}2/SPIMOSI(SPITXD) (io), T14 PC11/L1RSYNCA/~{CD}4 (io), T15 PC9/L1RSYNCB/~{CD}3 (io), T16 PC6/~{CTS}2 (io), T17 PC5/~{TGATE}1/~{CD}1 (io), T18 PC2/L1ST3/~{L1RQB}/~{RTS}3 (io)
part B pins: A3 NC3, B4 GND (power), D5 VCC (power), D6 GND (power), D7 GND (power), D8 VCC (power), D9 VCC (power), D10 GND (power), D11 GND (power), D12 GND (power), D13 GND (power), D14 VCC (power), D15 GND (power), E5 VCCSYN (power), E6 GNDSYN (power), E9 GND (power), E13 VCC (power), E14 GNDs1 (power), E15 VCC (power), E16 NC3, F4 GND (power), F5 GND (power), F14 VCC (power), F15 GND (power), G4 VCC (power), G15 VCC (power), H4 GND (power), H15 GNDs2 (power), H16 NC2, J4 GND (power), J5 VCC (power), J14 GND (power), J15 GND (power), J17 NC1, K2 VCC (power), K3 GND (power), K4 VCCCLK (power), K5 GNDCLK (power), K14 VCC (power), K15 VCC (power), L4 VCC (power), L15 GND (power), M4 GND (power), M15 VCC (power), N4 GND (power), N5 GND (power), N14 GND (power), N15 GND (power), P4 GND (power), P5 VCC (power), P6 GND (power), P9 NC, P13 VCC (power), P14 GND (power), P15 GND (power), Q4 GND (power), Q5 GND (power), Q6 GND (power), Q7 VCC (power), Q8 VCC (power), Q9 GND (power), Q10 GND (power), Q11 VCC (power), Q12 VCC (power), Q13 GND (power), Q14 GND (power), Q15 GND (power)

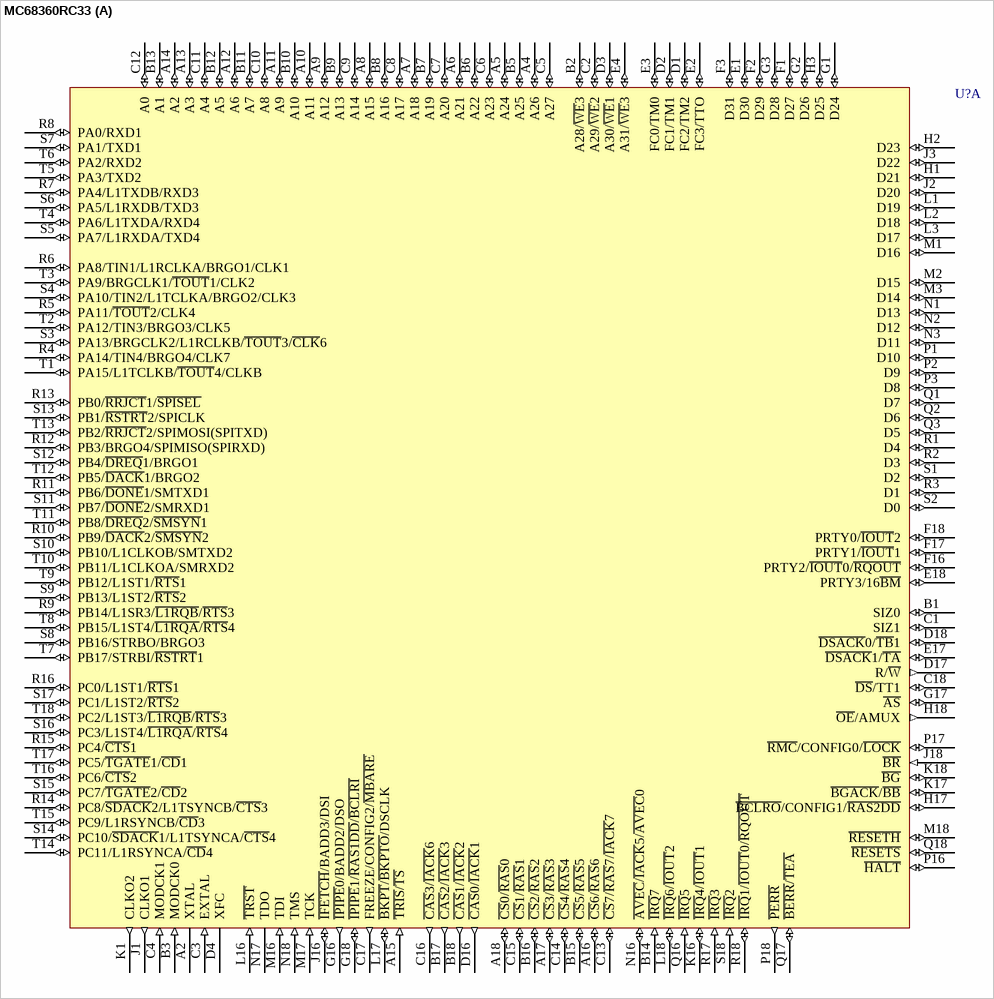
[diagram p171: symbol MC68360RC33]

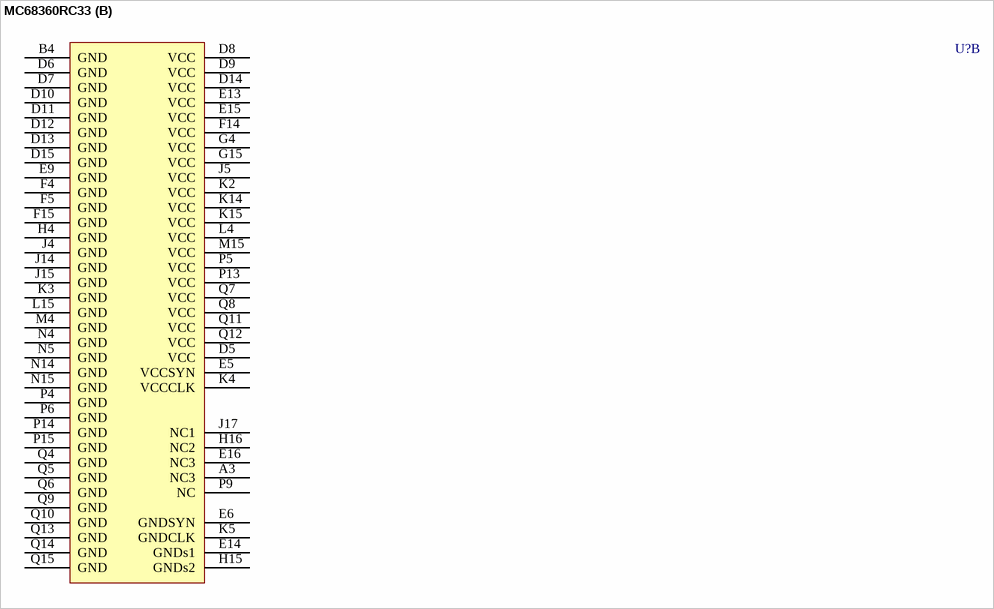
[diagram p172: symbol MC68360RC33]

## MC68360RC33
designator U?
Quad Integrated Communication Controller; Published: 21-Mar-2003; LatestRevisionDate: 06-Jun-2005; LatestRevisionNote: Stylized 3D Model Added.; DatasheetVersion: Jan-1995; PackageVersion: Jan-1995; PackageReference: PGA241; Publisher: Altium Limited; PackageDescription: 241-Pin Pin Grid Array 2.54 mm Pitch; ComponentLink1Description: Manufacturer Link; ComponentLink1URL: http://www.freescale.com/; ComponentLink2Description: Datasheet; ComponentLink2URL: http://www.freescale.com/files/32bit/doc/data_sheet/MC68360.pdf
footprint PGA241 (PGA, 241-Leads, Body 47x47mm, Pitch 2.54mm)
3D model MC68360-PGA241 (241-Pin Pin Grid Array 2.54 mm Pitch)
part A pins: A2 XTAL, A4 A26 (io), A5 A24 (io), A6 A21 (io), A7 A18 (io), A8 A15 (io), A9 A12 (io), A10 A11 (io), A11 A9 (io), A12 A6 (io), A13 A3 (io), A14 A2 (io), A15 ~{TRIS}/~{TS} (in), A16 ~{CS}6/~{RAS}6 (io), A17 ~{CS}3/~{RAS}3 (io), A18 ~{CS}0/~{RAS}0 (io), B1 SIZ0 (io), B2 A28/~{WE}3 (io), B3 MODCK0 (in), B5 A25 (io), B6 A22 (io), B7 A19 (io), B8 A16 (io), B9 A13 (io), B10 A10 (io), B11 A7 (io), B12 A5 (io), B13 A1 (io), B14 ~{IRQ}7 (in), B15 ~{CS}5/~{RAS}5 (io), B16 ~{CS}2/~{RAS}2 (io), B17 ~{CAS}2/~{IACK}3 (out), B18 ~{CAS}1/~{IACK}2 (out), C1 SIZ1 (io), C2 A29/~{WE}2 (io), C3 EXTAL (in), C4 MODCK1 (in), C5 A27 (io), C6 A23 (io), C7 A20 (io), C8 A17 (io), C9 A14 (io), C10 A8 (io), C11 A4 (io), C12 A0 (io), C13 ~{CS}7/~{RAS}7/~{IACK}7 (io), C14 ~{CS}4/~{RAS}4 (io), C15 ~{CS}1/~{RAS}1 (io), C16 ~{CAS}3/~{IACK}6 (out), C17 FREEZE/CONFIG2/~{MBARE} (out), C18 ~{DS}/TT1 (io), D1 FC2/TM2 (io), D2 FC1/TM1 (io), D3 A30/~{WE}1 (io), D4 XFC, D16 ~{CAS}0/~{IACK}1 (out), D17 R/~{W} (out), D18 ~{DSACK}0/~{TB}1 (io), E1 D30 (io), E2 FC3/TTO (io), E3 FC0/TM0 (io), E4 A31/~{WE}3 (io), E17 ~{DSACK}1/~{TA} (io), E18 PRTY3/16~{BM} (io), F1 D27 (io), F2 D29 (io), F3 D31 (io), F16 PRTY2/~{IOUT}0/~{RQOUT} (io), F17 PRTY1/~{IOUT}1 (io), F18 PRTY0/~{IOUT}2 (io), G1 D24 (io), G2 D26 (io), G3 D28 (io), G16 ~{IPIPE}0/BADD2/DSO (out), G17 ~{AS} (io), G18 ~{IPIPE}1/~{RAS1DD}/~{BCLRI} (io), H1 D21 (io), H2 D23 (io), H3 D25 (io), H17 ~{BCLRO}/CONFIG1/~{RAS2DD} (io), H18 ~{OE}/AMUX (out), J1 CLKO1 (out), J2 D20 (io), J3 D22 (io), J16 ~{IFETCH}/BADD3/DSI (io), J18 ~{BR} (in), K1 CLKO2 (out), K16 ~{IRQ}4/~{IOUT}1 (io), K17 ~{BGACK}/~{BB} (io), K18 ~{BG} (io), L1 D19 (io), L2 D18 (io), L3 D17 (io), L16 ~{TRST} (in), L17 ~{BKPT}/~{BKPTO}/DSCLK (io), L18 ~{IRQ}6/~{IOUT}2 (io), M1 D16 (io), M2 D15 (io), M3 D14 (io), M16 TDI (in), M17 TCK (in), M18 ~{RESETH} (io), N1 D13 (io), N2 D12 (io), N3 D11 (io), N16 ~{AVEC}/~{IACK}5/~{AVEC}0 (io), N17 TDO (hiz), N18 TMS (in), P1 D10 (io), P2 D9 (io), P3 D8 (io), P16 ~{HALT} (io), P17 ~{RMC}/CONFIG0/~{LOCK} (io), P18 ~{PERR} (out), Q1 D7 (io), Q2 D6 (io), Q3 D5 (io), Q16 ~{IRQ}5 (in), Q17 ~{BERR}/~{TEA} (io), Q18 ~{RESETS} (io), R1 D4 (io), R2 D3 (io), R3 D1 (io), R4 PA14/TIN4/BRGO4/CLK7 (io), R5 PA11/~{TOUT}2/CLK4 (io), R6 PA8/TIN1/L1RCLKA/BRGO1/CLK1 (io), R7 PA4/L1TXDB/RXD3 (io), R8 PA0/RXD1 (io), R9 PB14/L1SR3/~{L1RQB}/~{RTS}3 (io), R10 PB9/~{DACK}2/~{SMSYN}2 (io), R11 PB6/~{DONE}1/SMTXD1 (io), R12 PB3/BRGO4/SPIMISO(SPIRXD) (io), R13 PB0/~{RRJCT}1/~{SPISEL} (io), R14 PC8/~{SDACK}2/L1TSYNCB/~{CTS}3 (io), R15 PC4/~{CTS}1 (io), R16 PC0/L1ST1/~{RTS}1 (io), R17 ~{IRQ}3 (in), R18 ~{IRQ}1/~{IOUT}0/~{RQOUT} (io), S1 D2 (io), S2 D0 (io), S3 PA13/BRGCLK2/L1RCLKB/~{TOUT}3/~{CLK}6 (io), S4 PA10/TIN2/L1TCLKA/BRGO2/CLK3 (io), S5 PA7/L1RXDA/TXD4 (io), S6 PA5/L1RXDB/TXD3 (io), S7 PA1/TXD1 (io), S8 PB16/STRBO/BRGO3 (io), S9 PB13/L1ST2/~{RTS}2 (io), S10 PB10/L1CLKOB/SMTXD2 (io), S11 PB7/~{DONE}2/SMRXD1 (io), S12 PB4/~{DREQ}1/BRGO1 (io), S13 PB1/~{RSTRT}2/SPICLK (io), S14 PC10/~{SDACK}1/L1TSYNCA/~{CTS}4 (io), S15 PC7/~{TGATE}2/~{CD}2 (io), S16 PC3/L1ST4/~{L1RQA}/~{RTS}4 (io), S17 PC1/L1ST2/~{RTS}2 (io), S18 ~{IRQ}2 (in), T1 PA15/L1TCLKB/~{TOUT}4/CLKB (io), T2 PA12/TIN3/BRGO3/CLK5 (io), T3 PA9/BRGCLK1/~{TOUT}1/CLK2 (io), T4 PA6/L1TXDA/RXD4 (io), T5 PA3/TXD2 (io), T6 PA2/RXD2 (io), T7 PB17/STRBI/~{RSTRT}1 (io), T8 PB15/L1ST4/~{L1RQA}/~{RTS}4 (io), T9 PB12/L1ST1/~{RTS}1 (io), T10 PB11/L1CLKOA/SMRXD2 (io), T11 PB8/~{DREQ}2/~{SMSYN}1 (io), T12 PB5/~{DACK}1/BRGO2 (io), T13 PB2/~{RRJCT}2/SPIMOSI(SPITXD) (io), T14 PC11/L1RSYNCA/~{CD}4 (io), T15 PC9/L1RSYNCB/~{CD}3 (io), T16 PC6/~{CTS}2 (io), T17 PC5/~{TGATE}1/~{CD}1 (io), T18 PC2/L1ST3/~{L1RQB}/~{RTS}3 (io)
part B pins: A3 NC3, B4 GND (power), D5 VCC (power), D6 GND (power), D7 GND (power), D8 VCC (power), D9 VCC (power), D10 GND (power), D11 GND (power), D12 GND (power), D13 GND (power), D14 VCC (power), D15 GND (power), E5 VCCSYN (power), E6 GNDSYN (power), E9 GND (power), E13 VCC (power), E14 GNDs1 (power), E15 VCC (power), E16 NC3, F4 GND (power), F5 GND (power), F14 VCC (power), F15 GND (power), G4 VCC (power), G15 VCC (power), H4 GND (power), H15 GNDs2 (power), H16 NC2, J4 GND (power), J5 VCC (power), J14 GND (power), J15 GND (power), J17 NC1, K2 VCC (power), K3 GND (power), K4 VCCCLK (power), K5 GNDCLK (power), K14 VCC (power), K15 VCC (power), L4 VCC (power), L15 GND (power), M4 GND (power), M15 VCC (power), N4 GND (power), N5 GND (power), N14 GND (power), N15 GND (power), P4 GND (power), P5 VCC (power), P6 GND (power), P9 NC, P13 VCC (power), P14 GND (power), P15 GND (power), Q4 GND (power), Q5 GND (power), Q6 GND (power), Q7 VCC (power), Q8 VCC (power), Q9 GND (power), Q10 GND (power), Q11 VCC (power), Q12 VCC (power), Q13 GND (power), Q14 GND (power), Q15 GND (power)

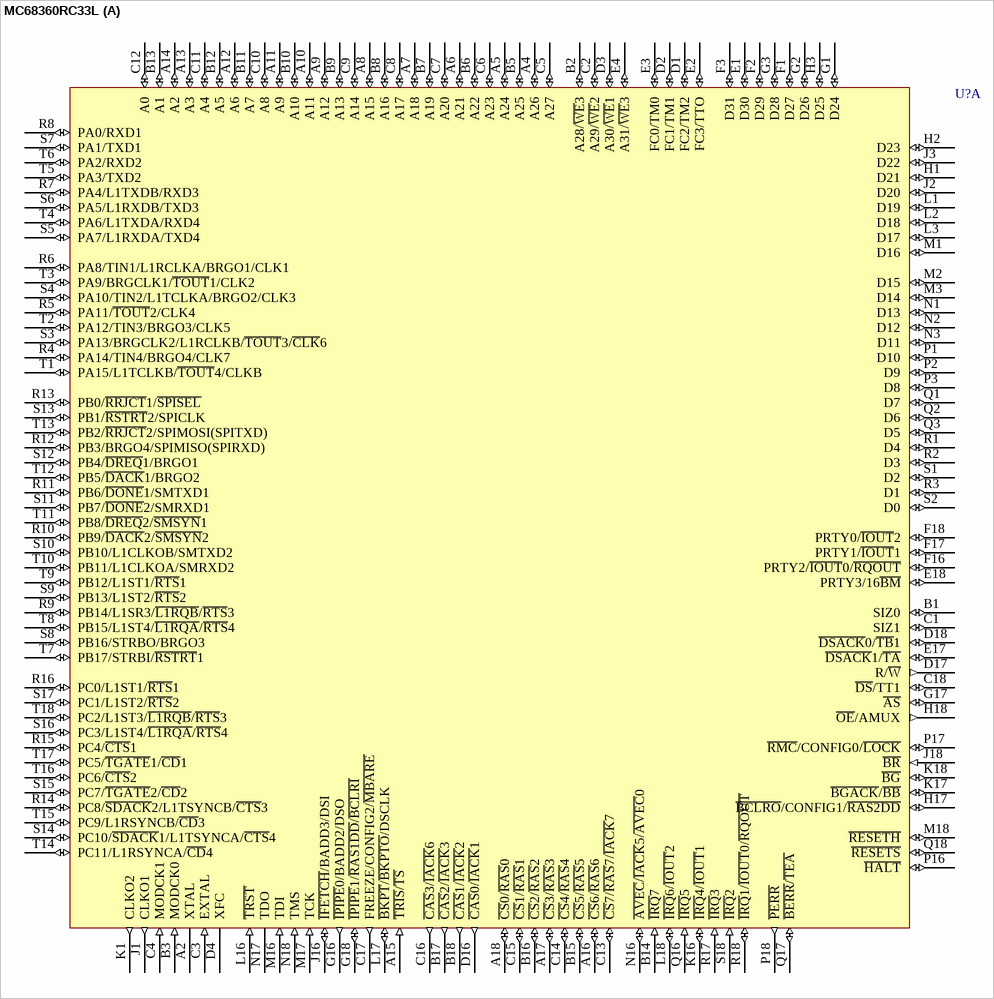
[diagram p173: symbol MC68360RC33L]

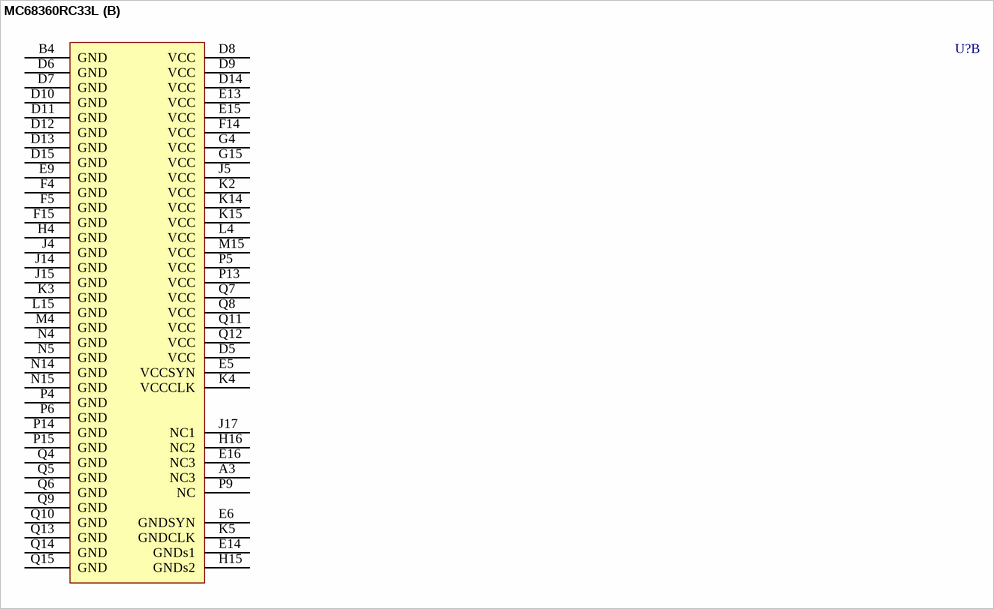
[diagram p174: symbol MC68360RC33L]